# Altium integrated library WCH-CHxxx.IntLib: 327 symbols (part 3 of 5)
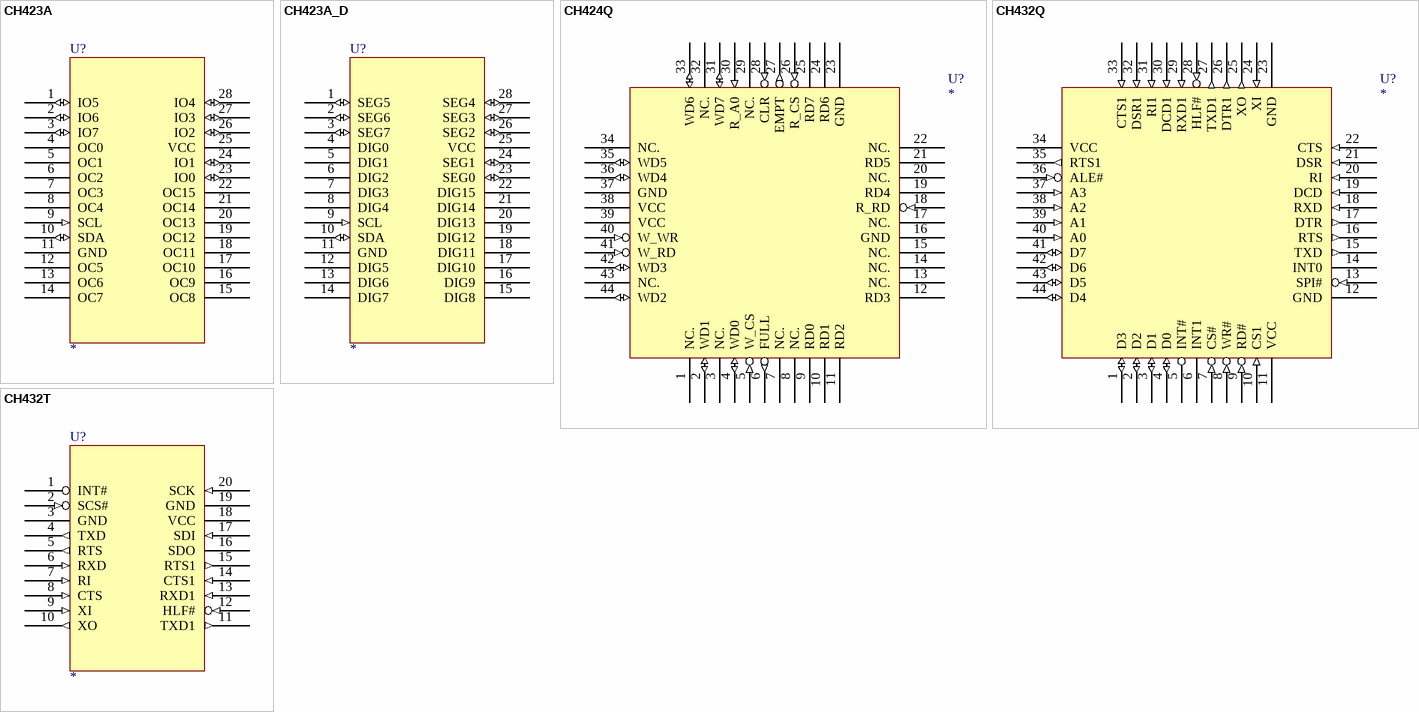
[diagram p39: symbols CH423A to CH432T]

## CH423A
designator U?
I2C/IIC I/O expander, 16 GPO + 8 GPIO
footprint SOP28
footprint DIP28S
pins: 1 IO5 (io), 2 IO6 (io), 3 IO7 (io), 4 OC0 (oc), 5 OC1 (oc), 6 OC2 (oc), 7 OC3 (oc), 8 OC4 (oc), 9 SCL (in), 10 SDA (io), 11 GND (power), 12 OC5 (oc), 13 OC6 (oc), 14 OC7 (oc), 15 OC8 (oc), 16 OC9 (oc), 17 OC10 (oc), 18 OC11 (oc), 19 OC12 (oc), 20 OC13 (oc), 21 OC14 (oc), 22 OC15 (oc), 23 IO0 (io), 24 IO1 (io), 25 VCC (power), 26 IO2 (io), 27 IO3 (io), 28 IO4 (io)

## CH423A_D
designator U?
I2C/IIC I/O expander, GPIO, 8-Seg * 16 / 128 LEDs Drive
footprint SOP28
footprint DIP28S
pins: 1 SEG5 (io), 2 SEG6 (io), 3 SEG7 (io), 4 DIG0 (oc), 5 DIG1 (oc), 6 DIG2 (oc), 7 DIG3 (oc), 8 DIG4 (oc), 9 SCL (in), 10 SDA (io), 11 GND (power), 12 DIG5 (oc), 13 DIG6 (oc), 14 DIG7 (oc), 15 DIG8 (oc), 16 DIG9 (oc), 17 DIG10 (oc), 18 DIG11 (oc), 19 DIG12 (oc), 20 DIG13 (oc), 21 DIG14 (oc), 22 DIG15 (oc), 23 SEG0 (io), 24 SEG1 (io), 25 VCC (power), 26 SEG2 (io), 27 SEG3 (io), 28 SEG4 (io)

## CH424Q
designator U?
FIFO, 4K byte * 8 bit
footprint LQFP44
pins: 1 NC., 2 WD1 (io), 3 NC., 4 WD0 (io), 5 W_CS (in), 6 FULL (out), 7 NC., 8 NC., 9 RD0 (hiz), 10 RD1 (hiz), 11 RD2 (hiz), 12 RD3 (hiz), 13 NC., 14 NC., 15 NC., 16 GND (power), 17 NC., 18 R_RD (in), 19 RD4 (hiz), 20 NC., 21 RD5 (hiz), 22 NC., 23 GND (power), 24 RD6 (hiz), 25 RD7 (hiz), 26 R_CS (in), 27 EMPT (out), 28 CLR (in), 29 NC., 30 R_A0 (in), 31 WD7 (io), 32 NC., 33 WD6 (io), 34 NC., 35 WD5 (io), 36 WD4 (io), 37 GND (power), 38 VCC (power), 39 VCC (power), 40 W_WR (in), 41 W_RD (in), 42 WD3 (io), 43 NC., 44 WD2 (io)

## CH432Q
designator U?
Dual 16C550 UART with IrDA, parallel / SPI
footprint LQFP44
pins: 1 D3 (io), 2 D2 (io), 3 D1 (io), 4 D0 (io), 5 INT# (oc), 6 INT1 (hiz), 7 CS# (in), 8 WR# (in), 9 RD# (in), 10 CS1 (in), 11 VCC (power), 12 GND (power), 13 SPI# (in), 14 INT0 (hiz), 15 TXD (out), 16 RTS (out), 17 DTR (out), 18 RXD (in), 19 DCD (in), 20 RI (in), 21 DSR (in), 22 CTS (in), 23 GND (power), 24 XI (in), 25 XO (out), 26 DTR1 (out), 27 TXD1 (out), 28 HLF# (in), 29 RXD1 (in), 30 DCD1 (in), 31 RI1 (in), 32 DSR1 (in), 33 CTS1 (in), 34 VCC (power), 35 RTS1 (out), 36 ALE# (in), 37 A3 (in), 38 A2 (in), 39 A1 (in), 40 A0 (in), 41 D7 (io), 42 D6 (io), 43 D5 (io), 44 D4 (io)

## CH432T
designator U?
SPI Dual 16C550 UART with IrDA
footprint SSOP20
pins: 1 INT# (oc), 2 SCS# (in), 3 GND (power), 4 TXD (out), 5 RTS (out), 6 RXD (in), 7 RI (in), 8 CTS (in), 9 XI (in), 10 XO (out), 11 TXD1 (out), 12 HLF# (in), 13 RXD1 (in), 14 CTS1 (in), 15 RTS1 (out), 16 SDO (hiz), 17 SDI (in), 18 VCC (power), 19 GND (power), 20 SCK (in)

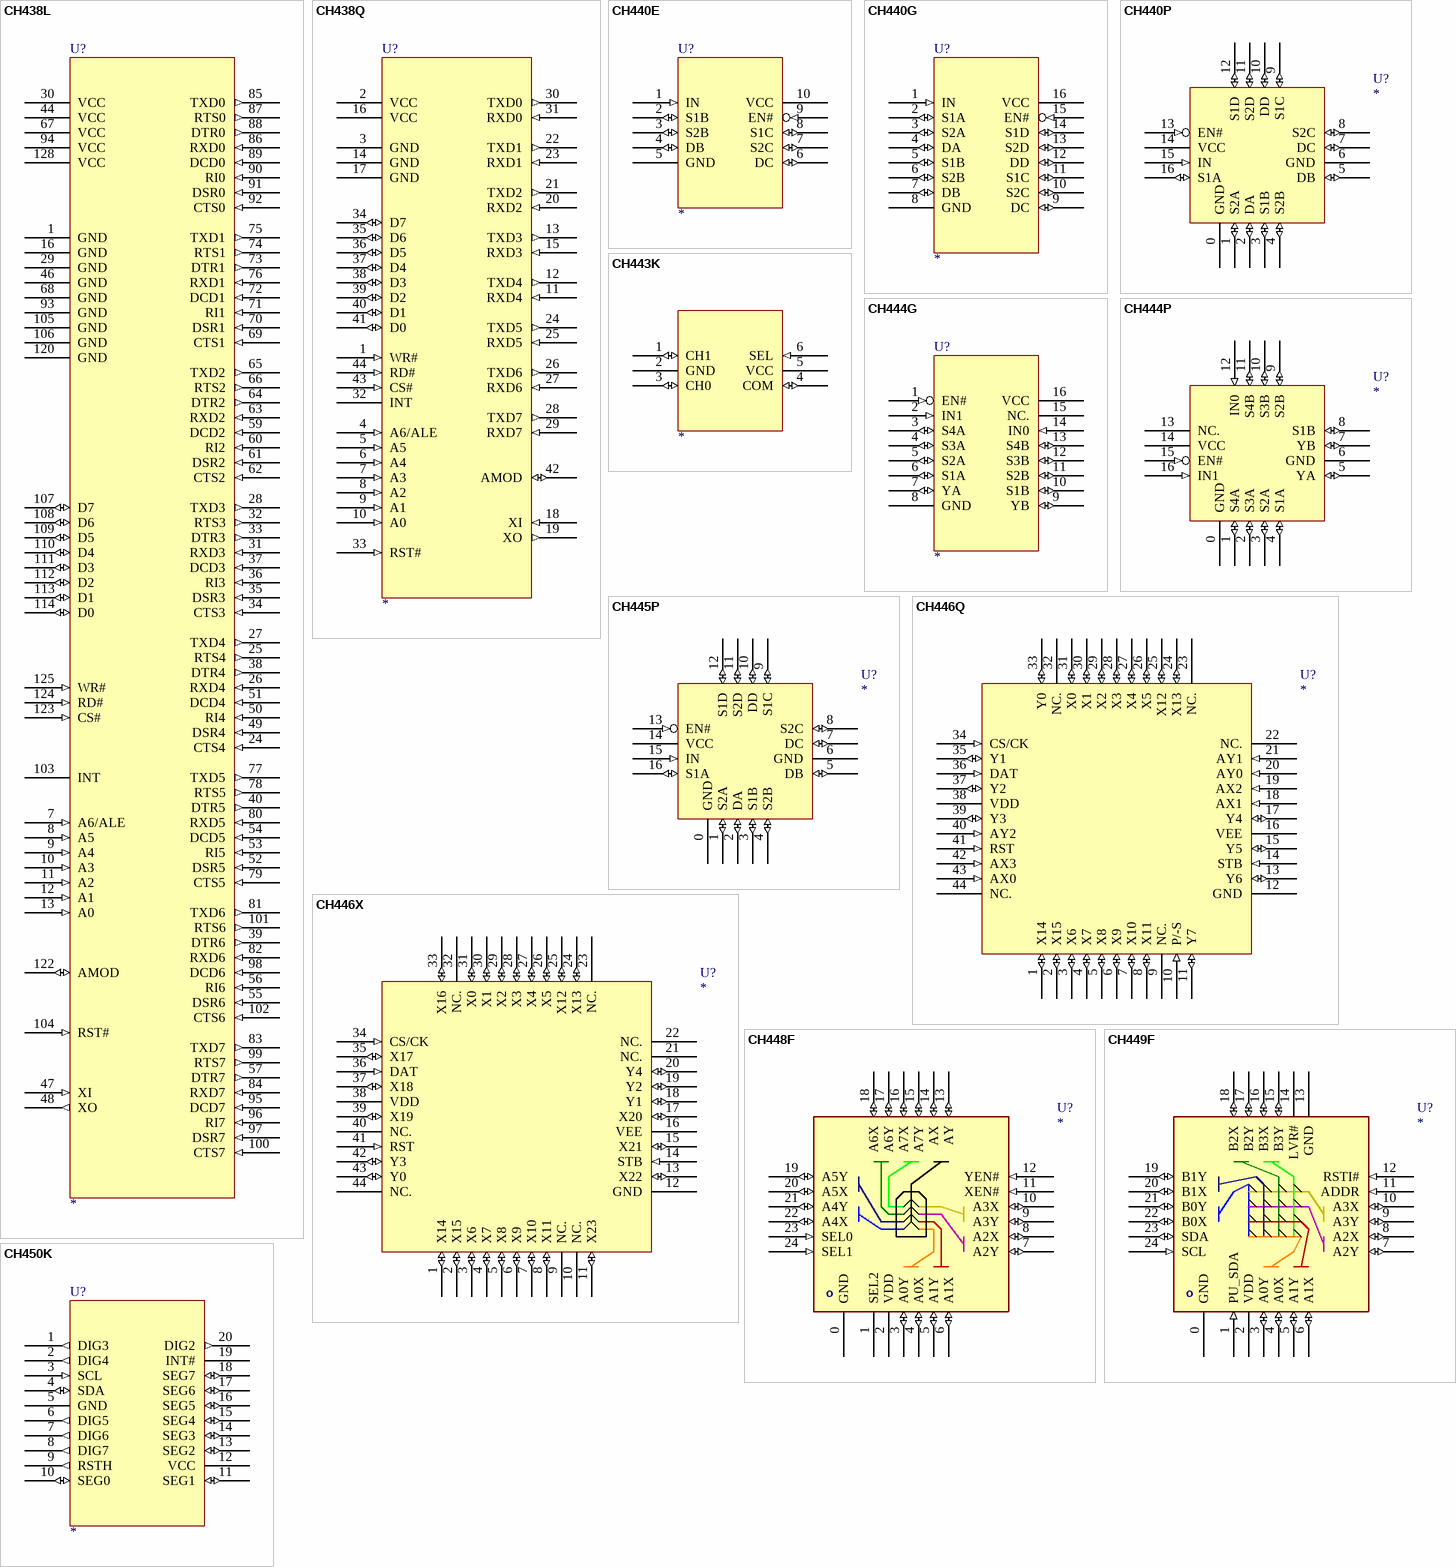
[diagram p17: symbols CH438L to CH450K]

## CH438L
designator U?
Parallel to 8S: Oct 16C550 UART with 128 byte FIFO, TTL Serial*8
footprint LQFP128
pins: 1 GND (power), 7 A6/ALE (in), 8 A5 (in), 9 A4 (in), 10 A3 (in), 11 A2 (in), 12 A1 (in), 13 A0 (in), 16 GND (power), 24 CTS4 (in), 25 RTS4 (out), 26 RXD4 (in), 27 TXD4 (out), 28 TXD3 (out), 29 GND (power), 30 VCC (power), 31 RXD3 (in), 32 RTS3 (out), 33 DTR3 (out), 34 CTS3 (in), 35 DSR3 (in), 36 RI3 (in), 37 DCD3 (in), 38 DTR4 (out), 39 DTR6 (out), 40 DTR5 (out), 44 VCC (power), 46 GND (power), 47 XI (in), 48 XO (out), 49 DSR4 (in), 50 RI4 (in), 51 DCD4 (in), 52 DSR5 (in), 53 RI5 (in), 54 DCD5 (in), 55 DSR6 (in), 56 RI6 (in), 57 DTR7 (out), 59 DCD2 (in), 60 RI2 (in), 61 DSR2 (in), 62 CTS2 (in), 63 RXD2 (in), 64 DTR2 (out), 65 TXD2 (out), 66 RTS2 (out), 67 VCC (power), 68 GND (power), 69 CTS1 (in), 70 DSR1 (in), 71 RI1 (in), 72 DCD1 (in), 73 DTR1 (out), 74 RTS1 (out), 75 TXD1 (out), 76 RXD1 (in), 77 TXD5 (out), 78 RTS5 (out), 79 CTS5 (in), 80 RXD5 (in), 81 TXD6 (out), 82 RXD6 (in), 83 TXD7 (out), 84 RXD7 (in), 85 TXD0 (out), 86 RXD0 (in), 87 RTS0 (out), 88 DTR0 (out), 89 DCD0 (in), 90 RI0 (in), 91 DSR0 (in), 92 CTS0 (in), 93 GND (power), 94 VCC (power), 95 DCD7 (in), 96 RI7 (in), 97 DSR7 (in), 98 DCD6 (in), 99 RTS7 (out), 100 CTS7 (in), 101 RTS6 (out), 102 CTS6 (in), 103 INT (oc), 104 RST# (in), 105 GND (power), 106 GND (power), 107 D7 (io), 108 D6 (io), 109 D5 (io), 110 D4 (io), 111 D3 (io), 112 D2 (io), 113 D1 (io), 114 D0 (io), 120 GND (power), 122 AMOD (io), 123 CS# (in), 124 RD# (in), 125 WR# (in), 128 VCC (power)

## CH438Q
designator U?
Parallel to 8S: Oct 16C550 UART with 128 byte FIFO, TTL Serial*8
footprint LQFP44
pins: 1 WR# (in), 2 VCC (power), 3 GND (power), 4 A6/ALE (in), 5 A5 (in), 6 A4 (in), 7 A3 (in), 8 A2 (in), 9 A1 (in), 10 A0 (in), 11 RXD4 (in), 12 TXD4 (out), 13 TXD3 (out), 14 GND (power), 15 RXD3 (in), 16 VCC (power), 17 GND (power), 18 XI (in), 19 XO (out), 20 RXD2 (in), 21 TXD2 (out), 22 TXD1 (out), 23 RXD1 (in), 24 TXD5 (out), 25 RXD5 (in), 26 TXD6 (out), 27 RXD6 (in), 28 TXD7 (out), 29 RXD7 (in), 30 TXD0 (out), 31 RXD0 (in), 32 INT (oc), 33 RST# (in), 34 D7 (io), 35 D6 (io), 36 D5 (io), 37 D4 (io), 38 D3 (io), 39 D2 (io), 40 D1 (io), 41 D0 (io), 42 AMOD (io), 43 CS# (in), 44 RD# (in)

## CH440E
designator U?
DPDT Low resistance mux 2:1 Analog switches with enable for 5V
footprint MSOP10
pins: 1 IN (in), 2 S1B (io), 3 S2B (io), 4 DB (io), 5 GND (power), 6 DC (io), 7 S2C (io), 8 S1C (io), 9 EN# (in), 10 VCC (power)

## CH440G
designator U?
QPDT Low resistance mux 2:1 Analog switches with enable for 5V
footprint SOP16
footprint TSSOP16
pins: 1 IN (in), 2 S1A (io), 3 S2A (io), 4 DA (io), 5 S1B (io), 6 S2B (io), 7 DB (io), 8 GND (power), 9 DC (io), 10 S2C (io), 11 S1C (io), 12 DD (io), 13 S2D (io), 14 S1D (io), 15 EN# (in), 16 VCC (power)

## CH440P
designator U?
QPDT Low resistance mux 2:1 Analog switches with enable for 5V
footprint QFN16_3X3
pins: 0 GND (power), 1 S2A (io), 2 DA (io), 3 S1B (io), 4 S2B (io), 5 DB (io), 6 GND (power), 7 DC (io), 8 S2C (io), 9 S1C (io), 10 DD (io), 11 S2D (io), 12 S1D (io), 13 EN# (in), 14 VCC (power), 15 IN (in), 16 S1A (io)

## CH443K
designator ?
SPDT Low resistance mux 2:1 Analog switches for 5V
footprint SOT-363
pins: 1 CH1 (io), 2 GND (power), 3 CH0 (io), 4 COM (io), 5 VCC (power), 6 SEL (in)

## CH444G
designator U?
DPQT Low resistance mux 4:1 Analog switches with enable for 5V
footprint SOP16
footprint TSSOP16
pins: 1 EN# (in), 2 IN1 (in), 3 S4A (io), 4 S3A (io), 5 S2A (io), 6 S1A (io), 7 YA (io), 8 GND (power), 9 YB (io), 10 S1B (io), 11 S2B (io), 12 S3B (io), 13 S4B (io), 14 IN0 (in), 15 NC., 16 VCC (power)

## CH444P
designator U?
DPQT Low resistance mux 4:1 Analog switches with enable for 5V
footprint QFN16_3X3
pins: 0 GND (power), 1 S4A (io), 2 S3A (io), 3 S2A (io), 4 S1A (io), 5 YA (io), 6 GND (power), 7 YB (io), 8 S1B (io), 9 S2B (io), 10 S3B (io), 11 S4B (io), 12 IN0 (in), 13 NC., 14 VCC (power), 15 EN# (in), 16 IN1 (in)

## CH445P
designator U?
QPDT Low resistance mux 2:1 Analog switches with enable for 3.3V
footprint QFN16_3X3
pins: 0 GND (power), 1 S2A (io), 2 DA (io), 3 S1B (io), 4 S2B (io), 5 DB (io), 6 GND (power), 7 DC (io), 8 S2C (io), 9 S1C (io), 10 DD (io), 11 S2D (io), 12 S1D (io), 13 EN# (in), 14 VCC (power), 15 IN (in), 16 S1A (io)

## CH446Q
designator U?
8 x 16 Analog switch array, include 128 switches for 12V
footprint LQFP44
pins: 1 X14 (io), 2 X15 (io), 3 X6 (io), 4 X7 (io), 5 X8 (io), 6 X9 (io), 7 X10 (io), 8 X11 (io), 9 NC., 10 P/-S (in), 11 Y7 (io), 12 GND (power), 13 Y6 (io), 14 STB (in), 15 Y5 (io), 16 VEE (power), 17 Y4 (io), 18 AX1 (in), 19 AX2 (in), 20 AY0 (in), 21 AY1 (in), 22 NC., 23 NC., 24 X13 (io), 25 X12 (io), 26 X5 (io), 27 X4 (io), 28 X3 (io), 29 X2 (io), 30 X1 (io), 31 X0 (io), 32 NC., 33 Y0 (io), 34 CS/CK (in), 35 Y1 (io), 36 DAT (in), 37 Y2 (io), 38 VDD (power), 39 Y3 (io), 40 AY2 (in), 41 RST (in), 42 AX3 (in), 43 AX0 (in), 44 NC.

## CH446X
designator U?
5 x 24 Analog switch array, include 120 switches for 12V
footprint LQFP44
pins: 1 X14 (io), 2 X15 (io), 3 X6 (io), 4 X7 (io), 5 X8 (io), 6 X9 (io), 7 X10 (io), 8 X11 (io), 9 NC., 10 NC., 11 X23 (io), 12 GND (power), 13 X22 (io), 14 STB (in), 15 X21 (io), 16 VEE (power), 17 X20 (io), 18 Y1 (io), 19 Y2 (io), 20 Y4 (io), 21 NC., 22 NC., 23 NC., 24 X13 (io), 25 X12 (io), 26 X5 (io), 27 X4 (io), 28 X3 (io), 29 X2 (io), 30 X1 (io), 31 X0 (io), 32 NC., 33 X16 (io), 34 CS/CK (in), 35 X17 (io), 36 DAT (in), 37 X18 (io), 38 VDD (power), 39 X19 (io), 40 NC., 41 RST (in), 42 Y3 (io), 43 Y0 (io), 44 NC.

## CH448F
designator U?
USB2.0 mux 8:1 / 16:1 Differential Switch, DPOT with dual enable
footprint QFN24_4X4
pins: 0 GND (power), 1 SEL2 (power), 2 VDD (power), 3 A0Y (io), 4 A0X (io), 5 A1Y (io), 6 A1X (io), 7 A2Y (io), 8 A2X (io), 9 A3Y (io), 10 A3X (io), 11 XEN# (in), 12 YEN# (in), 13 AY (io), 14 AX (io), 15 A7Y (io), 16 A7X (io), 17 A6Y (io), 18 A6X (io), 19 A5Y (io), 20 A5X (io), 21 A4Y (io), 22 A4X (io), 23 SEL0 (in), 24 SEL1 (in)
2 alternate drawings of the same symbol
text: o

## CH449F
designator U?
USB2.0 4x4 Analog Differential Switch Matrix, QXQX
footprint QFN24_4X4
pins: 0 GND (power), 1 PU_SDA (in), 2 VDD (power), 3 A0Y (io), 4 A0X (io), 5 A1Y (io), 6 A1X (io), 7 A2Y (io), 8 A2X (io), 9 A3Y (io), 10 A3X (io), 11 ADDR (in), 12 RSTI# (in), 13 GND (power), 14 LVR# (oc), 15 B3Y (io), 16 B3X (io), 17 B2Y (io), 18 B2X (io), 19 B1Y (io), 20 B1X (io), 21 B0Y (io), 22 B0X (io), 23 SDA (io), 24 SCL (in)
2 alternate drawings of the same symbol
text: o

## CH450K
designator U?
8-Seg * 6 Digits / 48 LEDs Drive & 8x6 Keyboard, I2C/IIC
footprint DIP20
footprint SOP20
pins: 1 DIG3 (out), 2 DIG4 (out), 3 SCL (in), 4 SDA (io), 5 GND (power), 6 DIG5 (out), 7 DIG6 (out), 8 DIG7 (out), 9 RSTH (out), 10 SEG0 (io), 11 SEG1 (io), 12 VCC (power), 13 SEG2 (io), 14 SEG3 (io), 15 SEG4 (io), 16 SEG5 (io), 17 SEG6 (io), 18 SEG7 (io), 19 INT# (oc), 20 DIG2 (out)

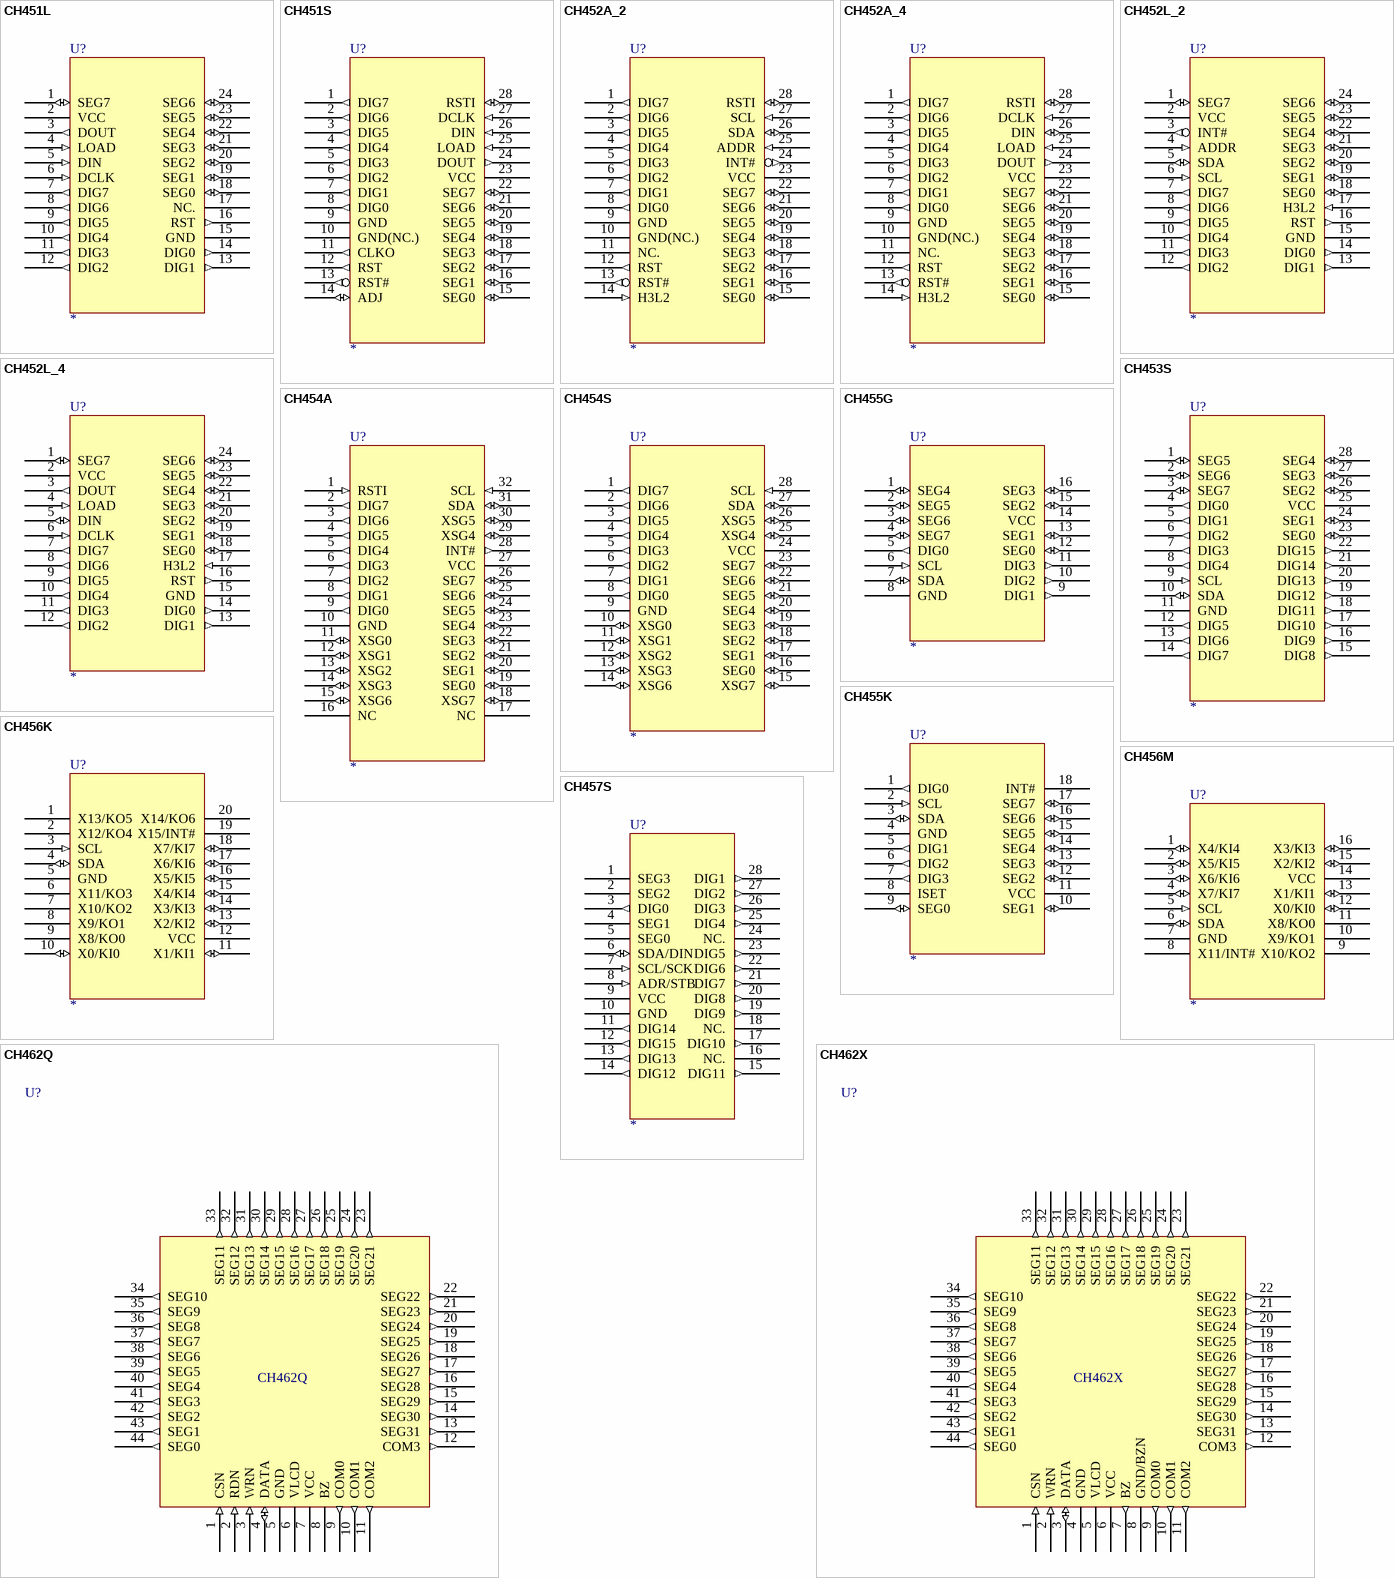
[diagram p18: symbols CH451L to CH462X]

## CH451L
designator U?
8-Seg * 8 Digits / 64 LEDs Drive & 8x8 Keyboard, 4 Wire Interface, SPI
footprint DIP24S
pins: 1 SEG7 (io), 2 VCC (power), 3 DOUT (out), 4 LOAD (in), 5 DIN (in), 6 DCLK (in), 7 DIG7 (out), 8 DIG6 (out), 9 DIG5 (out), 10 DIG4 (out), 11 DIG3 (out), 12 DIG2 (out), 13 DIG1 (out), 14 DIG0 (out), 15 GND (power), 16 RST (out), 17 NC., 18 SEG0 (io), 19 SEG1 (io), 20 SEG2 (io), 21 SEG3 (io), 22 SEG4 (io), 23 SEG5 (io), 24 SEG6 (io)

## CH451S
designator U?
8-Seg * 8 Digits / 64 LEDs Drive & 8x8 Keyboard, 4 Wire Interface, SPI
footprint SOP28
footprint DIP28
pins: 1 DIG7 (out), 2 DIG6 (out), 3 DIG5 (out), 4 DIG4 (out), 5 DIG3 (out), 6 DIG2 (out), 7 DIG1 (out), 8 DIG0 (out), 9 GND (power), 10 GND(NC.) (power), 11 CLKO (out), 12 RST (out), 13 RST# (out), 14 ADJ (io), 15 SEG0 (io), 16 SEG1 (io), 17 SEG2 (io), 18 SEG3 (io), 19 SEG4 (io), 20 SEG5 (io), 21 SEG6 (io), 22 SEG7 (io), 23 VCC (power), 24 DOUT (out), 25 LOAD (in), 26 DIN (in), 27 DCLK (in), 28 RSTI (io)

## CH452A_2
designator U?
8-Seg * 8 Digits / 64 LEDs Drive & 8x8 Keyboard, 2 Wire Interface, I2C/IIC
footprint SOP28
footprint DIP28
pins: 1 DIG7 (out), 2 DIG6 (out), 3 DIG5 (out), 4 DIG4 (out), 5 DIG3 (out), 6 DIG2 (out), 7 DIG1 (out), 8 DIG0 (out), 9 GND (power), 10 GND(NC.) (power), 11 NC., 12 RST (out), 13 RST# (out), 14 H3L2 (in), 15 SEG0 (io), 16 SEG1 (io), 17 SEG2 (io), 18 SEG3 (io), 19 SEG4 (io), 20 SEG5 (io), 21 SEG6 (io), 22 SEG7 (io), 23 VCC (power), 24 INT# (out), 25 ADDR (in), 26 SDA (io), 27 SCL (in), 28 RSTI (io)

## CH452A_4
designator U?
8-Seg * 8 Digits / 64 LEDs Drive & 8x8 Keyboard, 4 Wire Interface, SPI
footprint SOP28
footprint DIP28
pins: 1 DIG7 (out), 2 DIG6 (out), 3 DIG5 (out), 4 DIG4 (out), 5 DIG3 (out), 6 DIG2 (out), 7 DIG1 (out), 8 DIG0 (out), 9 GND (power), 10 GND(NC.) (power), 11 NC., 12 RST (out), 13 RST# (out), 14 H3L2 (in), 15 SEG0 (io), 16 SEG1 (io), 17 SEG2 (io), 18 SEG3 (io), 19 SEG4 (io), 20 SEG5 (io), 21 SEG6 (io), 22 SEG7 (io), 23 VCC (power), 24 DOUT (out), 25 LOAD (in), 26 DIN (io), 27 DCLK (in), 28 RSTI (io)

## CH452L_2
designator U?
8-Seg * 8 Digits / 64 LEDs Drive & 8x8 Keyboard, 2 Wire Interface, I2C/IIC
footprint DIP24S
pins: 1 SEG7 (io), 2 VCC (power), 3 INT# (out), 4 ADDR (in), 5 SDA (io), 6 SCL (in), 7 DIG7 (out), 8 DIG6 (out), 9 DIG5 (out), 10 DIG4 (out), 11 DIG3 (out), 12 DIG2 (out), 13 DIG1 (out), 14 DIG0 (out), 15 GND (power), 16 RST (out), 17 H3L2 (in), 18 SEG0 (io), 19 SEG1 (io), 20 SEG2 (io), 21 SEG3 (io), 22 SEG4 (io), 23 SEG5 (io), 24 SEG6 (io)

## CH452L_4
designator U?
8-Seg * 8 Digits / 64 LEDs Drive & 8x8 Keyboard, 4 Wire Interface, SPI
footprint DIP24S
pins: 1 SEG7 (io), 2 VCC (power), 3 DOUT (out), 4 LOAD (in), 5 DIN (io), 6 DCLK (in), 7 DIG7 (out), 8 DIG6 (out), 9 DIG5 (out), 10 DIG4 (out), 11 DIG3 (out), 12 DIG2 (out), 13 DIG1 (out), 14 DIG0 (out), 15 GND (power), 16 RST (out), 17 H3L2 (in), 18 SEG0 (io), 19 SEG1 (io), 20 SEG2 (io), 21 SEG3 (io), 22 SEG4 (io), 23 SEG5 (io), 24 SEG6 (io)

## CH453S
designator U?
8-Seg * 16 Digits / 128 LEDs Drive, I2C/IIC
footprint SOP28
footprint DIP28S
pins: 1 SEG5 (io), 2 SEG6 (io), 3 SEG7 (io), 4 DIG0 (out), 5 DIG1 (out), 6 DIG2 (out), 7 DIG3 (out), 8 DIG4 (out), 9 SCL (in), 10 SDA (io), 11 GND (power), 12 DIG5 (out), 13 DIG6 (out), 14 DIG7 (out), 15 DIG8 (out), 16 DIG9 (out), 17 DIG10 (out), 18 DIG11 (out), 19 DIG12 (out), 20 DIG13 (out), 21 DIG14 (out), 22 DIG15 (out), 23 SEG0 (io), 24 SEG1 (io), 25 VCC (power), 26 SEG2 (io), 27 SEG3 (io), 28 SEG4 (io)

## CH454A
designator U?
16 Segments * 8 Digits / 128 LEDs Drive & 8x8 Keyboard, I2C/IIC
footprint SDIP32
pins: 1 RSTI (in), 2 DIG7 (out), 3 DIG6 (out), 4 DIG5 (out), 5 DIG4 (out), 6 DIG3 (out), 7 DIG2 (out), 8 DIG1 (out), 9 DIG0 (out), 10 GND (power), 11 XSG0 (io), 12 XSG1 (io), 13 XSG2 (io), 14 XSG3 (io), 15 XSG6 (io), 16 NC, 17 NC, 18 XSG7 (io), 19 SEG0 (io), 20 SEG1 (io), 21 SEG2 (io), 22 SEG3 (io), 23 SEG4 (io), 24 SEG5 (io), 25 SEG6 (io), 26 SEG7 (io), 27 VCC (power), 28 INT# (out), 29 XSG4 (io), 30 XSG5 (io), 31 SDA (io), 32 SCL (in)

## CH454S
designator U?
16 Segments * 8 Digits / 128 LEDs Drive & 8x8 Keyboard, I2C/IIC
footprint SOP28
pins: 1 DIG7 (out), 2 DIG6 (out), 3 DIG5 (out), 4 DIG4 (out), 5 DIG3 (out), 6 DIG2 (out), 7 DIG1 (out), 8 DIG0 (out), 9 GND (power), 10 XSG0 (io), 11 XSG1 (io), 12 XSG2 (io), 13 XSG3 (io), 14 XSG6 (io), 15 XSG7 (io), 16 SEG0 (io), 17 SEG1 (io), 18 SEG2 (io), 19 SEG3 (io), 20 SEG4 (io), 21 SEG5 (io), 22 SEG6 (io), 23 SEG7 (io), 24 VCC (power), 25 XSG4 (io), 26 XSG5 (io), 27 SDA (io), 28 SCL (in)

## CH455G
designator U?
8-Seg * 4 Digits / 32 LEDs Drive & 7x4 Keyboard, I2C/IIC
footprint SOP16
pins: 1 SEG4 (io), 2 SEG5 (io), 3 SEG6 (io), 4 SEG7 (io), 5 DIG0 (out), 6 SCL (in), 7 SDA (io), 8 GND (power), 9 DIG1 (out), 10 DIG2 (out), 11 DIG3 (out), 12 SEG0 (io), 13 SEG1 (io), 14 VCC (power), 15 SEG2 (io), 16 SEG3 (io)

## CH455K
designator U?
8-Seg * 4 Digits / 32 LEDs Drive & 7x4 Keyboard, I2C/IIC
footprint SOP18
footprint DIP18
pins: 1 DIG0 (out), 2 SCL (in), 3 SDA (io), 4 GND (power), 5 DIG1 (out), 6 DIG2 (out), 7 DIG3 (out), 8 ISET, 9 SEG0 (io), 10 SEG1 (io), 11 VCC (power), 12 SEG2 (io), 13 SEG3 (io), 14 SEG4 (io), 15 SEG5 (io), 16 SEG6 (io), 17 SEG7 (io), 18 INT# (oc)

## CH456K
designator U?
8-Seg * 16 Digits / 128 LEDs Drive & 8x8 Keyboard, I2C/IIC
footprint DIP20
footprint SOP20
pins: 1 X13/KO5 (hiz), 2 X12/KO4 (hiz), 3 SCL (in), 4 SDA (io), 5 GND (power), 6 X11/KO3 (hiz), 7 X10/KO2 (hiz), 8 X9/KO1 (hiz), 9 X8/KO0 (hiz), 10 X0/KI0 (io), 11 X1/KI1 (io), 12 VCC (power), 13 X2/KI2 (io), 14 X3/KI3 (io), 15 X4/KI4 (io), 16 X5/KI5 (io), 17 X6/KI6 (io), 18 X7/KI7 (io), 19 X15/INT# (hiz), 20 X14/KO6 (hiz)

## CH456M
designator U?
8-Seg * 12 Digits / 96 LEDs Drive & 4x8 Keyboard, I2C/IIC
footprint DIP16
footprint SOP16
pins: 1 X4/KI4 (io), 2 X5/KI5 (io), 3 X6/KI6 (io), 4 X7/KI7 (io), 5 SCL (in), 6 SDA (io), 7 GND (power), 8 X11/INT# (hiz), 9 X10/KO2 (hiz), 10 X9/KO1 (hiz), 11 X8/KO0 (hiz), 12 X0/KI0 (io), 13 X1/KI1 (io), 14 VCC (power), 15 X2/KI2 (io), 16 X3/KI3 (io)

## CH457S
designator U?
8-Seg * 16 Digits / 128 LEDs Drive, I2C/IIC/2-wire/3-wire
footprint SOP28
footprint TSSOP28
pins: 1 SEG3 (hiz), 2 SEG2 (hiz), 3 DIG0 (out), 4 SEG1 (hiz), 5 SEG0 (hiz), 6 SDA/DIN (io), 7 SCL/SCK (in), 8 ADR/STB (in), 9 VCC (power), 10 GND (power), 11 DIG14 (out), 12 DIG15 (out), 13 DIG13 (out), 14 DIG12 (out), 15 DIG11 (out), 16 NC., 17 DIG10 (out), 18 NC., 19 DIG9 (out), 20 DIG8 (out), 21 DIG7 (out), 22 DIG6 (out), 23 DIG5 (out), 24 NC., 25 DIG4 (out), 26 DIG3 (out), 27 DIG2 (out), 28 DIG1 (out)

## CH462Q
designator U?
32*4 LCD controller, 4-wire
footprint LQFP44
pins: 1 CSN (in), 2 RDN (in), 3 WRN (in), 4 DATA (io), 5 GND (power), 6 VLCD (power), 7 VCC (power), 8 BZ, 9 COM0 (out), 10 COM1 (out), 11 COM2 (out), 12 COM3 (out), 13 SEG31 (out), 14 SEG30 (out), 15 SEG29 (out), 16 SEG28 (out), 17 SEG27 (out), 18 SEG26 (out), 19 SEG25 (out), 20 SEG24 (out), 21 SEG23 (out), 22 SEG22 (out), 23 SEG21 (out), 24 SEG20 (out), 25 SEG19 (out), 26 SEG18 (out), 27 SEG17 (out), 28 SEG16 (out), 29 SEG15 (out), 30 SEG14 (out), 31 SEG13 (out), 32 SEG12 (out), 33 SEG11 (out), 34 SEG10 (out), 35 SEG9 (out), 36 SEG8 (out), 37 SEG7 (out), 38 SEG6 (out), 39 SEG5 (out), 40 SEG4 (out), 41 SEG3 (out), 42 SEG2 (out), 43 SEG1 (out), 44 SEG0 (out)

## CH462X
designator U?
32*4 LCD controller, 3-wire
footprint LQFP44
pins: 1 CSN (in), 2 WRN (in), 3 DATA (io), 4 GND (power), 5 VLCD (power), 6 VCC (power), 7 BZ (out), 8 GND/BZN (power), 9 COM0 (out), 10 COM1 (out), 11 COM2 (out), 12 COM3 (out), 13 SEG31 (out), 14 SEG30 (out), 15 SEG29 (out), 16 SEG28 (out), 17 SEG27 (out), 18 SEG26 (out), 19 SEG25 (out), 20 SEG24 (out), 21 SEG23 (out), 22 SEG22 (out), 23 SEG21 (out), 24 SEG20 (out), 25 SEG19 (out), 26 SEG18 (out), 27 SEG17 (out), 28 SEG16 (out), 29 SEG15 (out), 30 SEG14 (out), 31 SEG13 (out), 32 SEG12 (out), 33 SEG11 (out), 34 SEG10 (out), 35 SEG9 (out), 36 SEG8 (out), 37 SEG7 (out), 38 SEG6 (out), 39 SEG5 (out), 40 SEG4 (out), 41 SEG3 (out), 42 SEG2 (out), 43 SEG1 (out), 44 SEG0 (out)

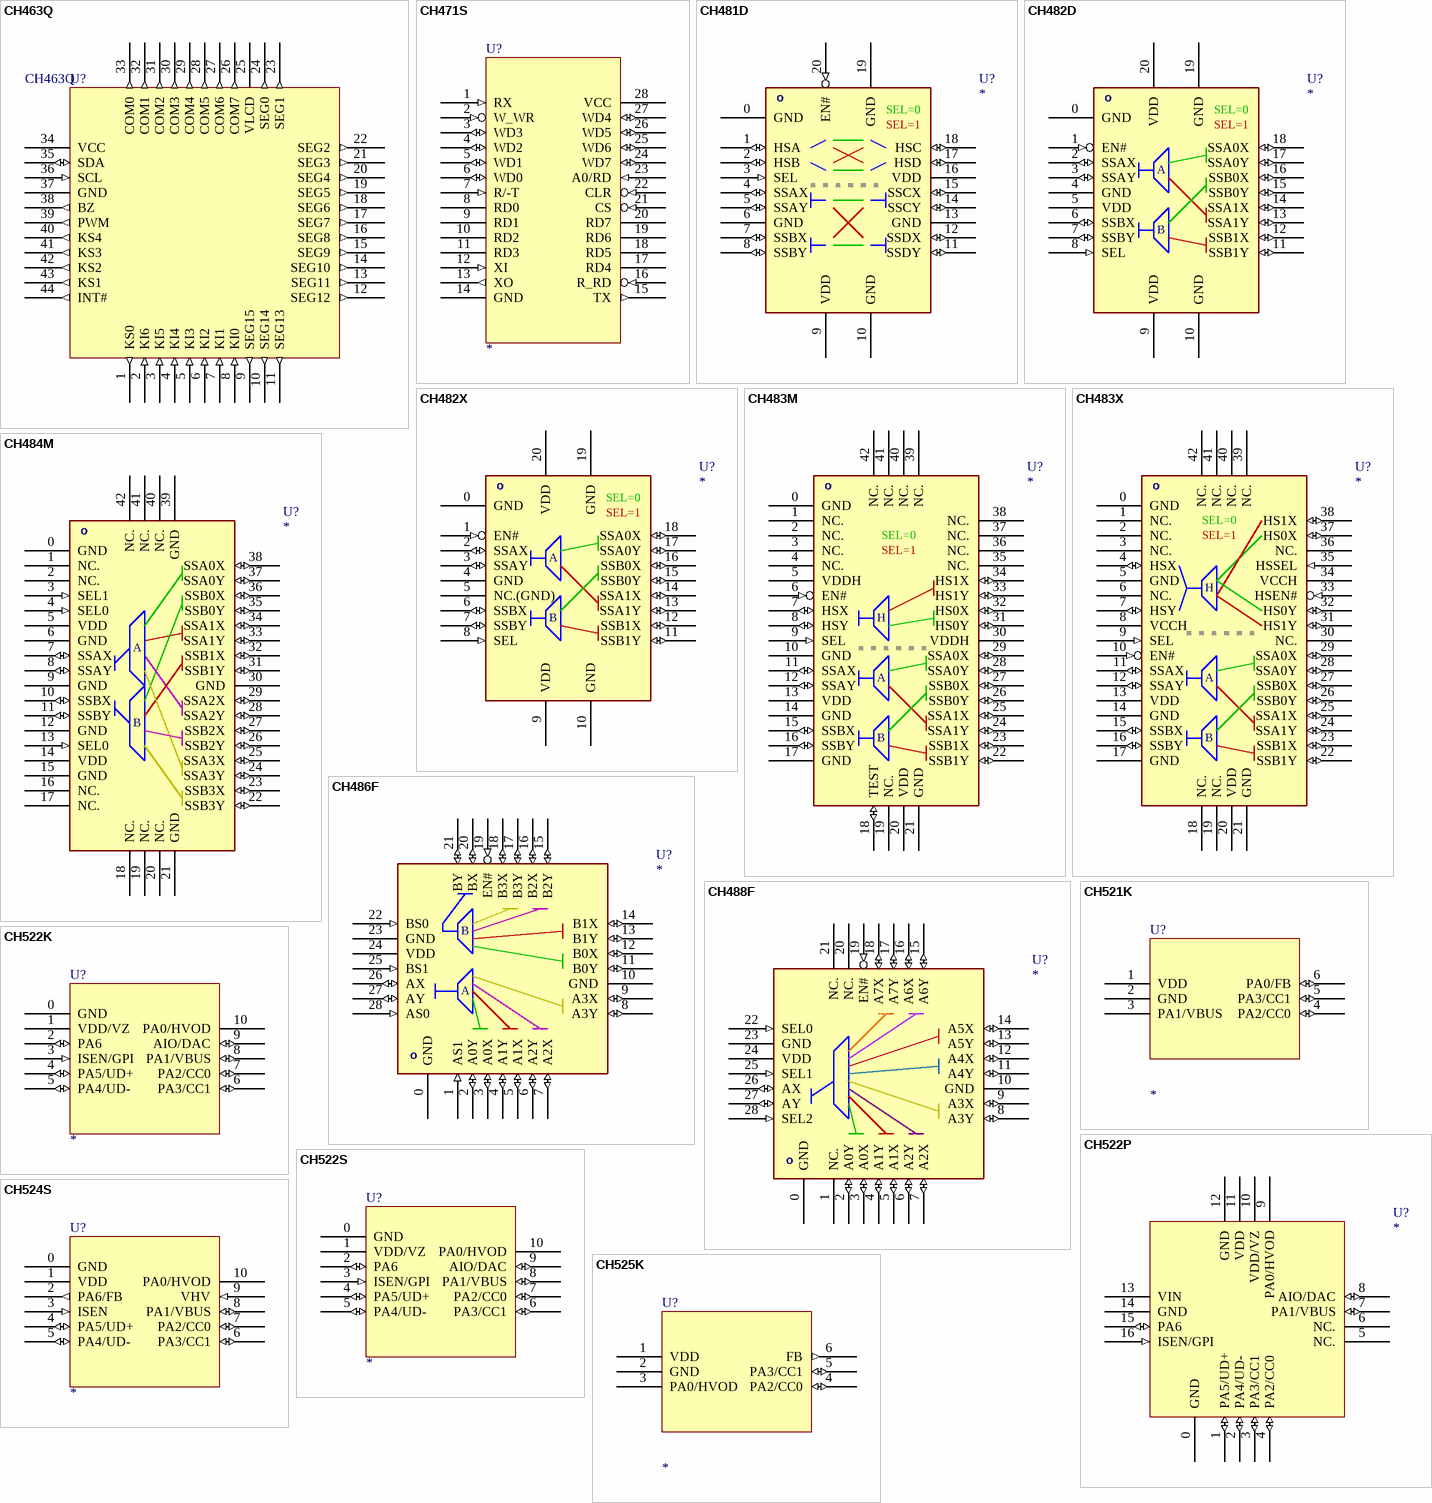
[diagram p19: symbols CH463Q to CH525K]

## CH463Q
designator U?
16*8 LCD controller & 7*5 keyboard, 2-wire
footprint LQFP44
pins: 1 KS0 (out), 2 KI6 (in), 3 KI5 (in), 4 KI4 (in), 5 KI3 (in), 6 KI2 (in), 7 KI1 (in), 8 KI0 (in), 9 SEG15 (out), 10 SEG14 (out), 11 SEG13 (out), 12 SEG12 (out), 13 SEG11 (out), 14 SEG10 (out), 15 SEG9 (out), 16 SEG8 (out), 17 SEG7 (out), 18 SEG6 (out), 19 SEG5 (out), 20 SEG4 (out), 21 SEG3 (out), 22 SEG2 (out), 23 SEG1 (out), 24 SEG0 (out), 25 VLCD (power), 26 COM7 (out), 27 COM6 (out), 28 COM5 (out), 29 COM4 (out), 30 COM3 (out), 31 COM2 (out), 32 COM1 (out), 33 COM0 (out), 34 VCC (power), 35 SDA (io), 36 SCL (in), 37 GND (power), 38 BZ (out), 39 PWM (out), 40 KS4 (out), 41 KS3 (out), 42 KS2 (out), 43 KS1 (out), 44 INT# (out)

## CH471S
designator U?
footprint SOP28
pins: 1 RX (in), 2 W_WR (in), 3 WD3 (io), 4 WD2 (io), 5 WD1 (io), 6 WD0 (io), 7 R/-T (in), 8 RD0 (hiz), 9 RD1 (hiz), 10 RD2 (hiz), 11 RD3 (hiz), 12 XI (in), 13 XO (out), 14 GND (power), 15 TX (out), 16 R_RD (in), 17 RD4 (hiz), 18 RD5 (hiz), 19 RD6 (hiz), 20 RD7 (hiz), 21 CS (in), 22 CLR (in), 23 A0/RD (in), 24 WD7 (io), 25 WD6 (io), 26 WD5 (io), 27 WD4 (io), 28 VCC (power)

## CH481D
designator U?
DP/PCIe/SATA/USB3.0 Differential Switch, QPDT
footprint QFN20_2.5X4.5
pins: 0 GND (power), 1 HSA (io), 2 HSB (io), 3 SEL (in), 4 SSAX (io), 5 SSAY (io), 6 GND (power), 7 SSBX (io), 8 SSBY (io), 9 VDD (power), 10 GND (power), 11 SSDY (io), 12 SSDX (io), 13 GND (power), 14 SSCY (io), 15 SSCX (io), 16 VDD (power), 17 HSD (io), 18 HSC (io), 19 GND (power), 20 EN# (in)
2 alternate drawings of the same symbol
text: o; SEL=0; SEL=1

## CH482D
designator U?
DP/PCIe/SATA/USB3.0 Differential Switch, QPDT
footprint QFN20_2.5X4.5
pins: 0 GND (power), 1 EN# (in), 2 SSAX (io), 3 SSAY (io), 4 GND (power), 5 VDD (power), 6 SSBX (io), 7 SSBY (io), 8 SEL (in), 9 VDD (power), 10 GND (power), 11 SSB1Y (io), 12 SSB1X (io), 13 SSA1Y (io), 14 SSA1X (io), 15 SSB0Y (io), 16 SSB0X (io), 17 SSA0Y (io), 18 SSA0X (io), 19 GND (power), 20 VDD (power)
2 alternate drawings of the same symbol
text: o; SEL=0; SEL=1; A; B

## CH482X
designator U?
DP/PCIe/SATA/USB3.0/USB3.2 Differential Switch, QPDT
footprint QFN20_2.5X4.5
pins: 0 GND (power), 1 EN# (in), 2 SSAX (io), 3 SSAY (io), 4 GND (power), 5 NC.(GND), 6 SSBX (io), 7 SSBY (io), 8 SEL (in), 9 VDD (power), 10 GND (power), 11 SSB1Y (io), 12 SSB1X (io), 13 SSA1Y (io), 14 SSA1X (io), 15 SSB0Y (io), 16 SSB0X (io), 17 SSA0Y (io), 18 SSA0X (io), 19 GND (power), 20 VDD (power)
2 alternate drawings of the same symbol
text: o; SEL=0; SEL=1; A; B

## CH483M
designator U?
DP/PCIe/SATA/USB3.0 & USB2.0 Differential Switch, QPDT+DPDT
footprint QFN42_3.5X9
pins: 0 GND (power), 1 NC., 2 NC., 3 NC., 4 NC., 5 VDDH (power), 6 EN# (in), 7 HSX (io), 8 HSY (io), 9 SEL (in), 10 GND (power), 11 SSAX (io), 12 SSAY (io), 13 VDD (power), 14 GND (power), 15 SSBX (io), 16 SSBY (io), 17 GND (power), 18 TEST (io), 19 NC., 20 VDD (power), 21 GND (power), 22 SSB1Y (io), 23 SSB1X (io), 24 SSA1Y (io), 25 SSA1X (io), 26 SSB0Y (io), 27 SSB0X (io), 28 SSA0Y (io), 29 SSA0X (io), 30 VDDH (power), 31 HS0Y (io), 32 HS0X (io), 33 HS1Y (io), 34 HS1X (io), 35 NC., 36 NC., 37 NC., 38 NC., 39 NC., 40 NC., 41 NC., 42 NC.
2 alternate drawings of the same symbol
text: o; SEL=0; SEL=1; H; A; B

## CH483X
designator U?
DP/PCIe/SATA/USB3.0 & USB2.0 Differential Switch, QPDT+DPDT
footprint QFN42_3.5X9
pins: 0 GND (power), 1 NC., 2 NC., 3 NC., 4 HSX (io), 5 GND (power), 6 NC., 7 HSY (io), 8 VCCH (power), 9 SEL (in), 10 EN# (in), 11 SSAX (io), 12 SSAY (io), 13 VDD (power), 14 GND (power), 15 SSBX (io), 16 SSBY (io), 17 GND (power), 18 NC., 19 NC., 20 VDD (power), 21 GND (power), 22 SSB1Y (io), 23 SSB1X (io), 24 SSA1Y (io), 25 SSA1X (io), 26 SSB0Y (io), 27 SSB0X (io), 28 SSA0Y (io), 29 SSA0X (io), 30 NC., 31 HS1Y (io), 32 HS0Y (io), 33 HSEN# (in), 34 VCCH (power), 35 HSSEL (in), 36 NC., 37 HS0X (io), 38 HS1X (io), 39 NC., 40 NC., 41 NC., 42 NC.
2 alternate drawings of the same symbol
text: o; SEL=0; SEL=1; H; A; B

## CH484M
designator U?
DP/PCIe/SATA/USB3.0 Differential Switch, QPQT
footprint QFN42_3.5X9
pins: 0 GND (power), 1 NC., 2 NC., 3 SEL1 (in), 4 SEL0 (in), 5 VDD (power), 6 GND (power), 7 SSAX (io), 8 SSAY (io), 9 GND (power), 10 SSBX (io), 11 SSBY (io), 12 GND (power), 13 SEL0 (in), 14 VDD (power), 15 GND (power), 16 NC., 17 NC., 18 NC., 19 NC., 20 NC., 21 GND (power), 22 SSB3Y (io), 23 SSB3X (io), 24 SSA3Y (io), 25 SSA3X (io), 26 SSB2Y (io), 27 SSB2X (io), 28 SSA2Y (io), 29 SSA2X (io), 30 GND (power), 31 SSB1Y (io), 32 SSB1X (io), 33 SSA1Y (io), 34 SSA1X (io), 35 SSB0Y (io), 36 SSB0X (io), 37 SSA0Y (io), 38 SSA0X (io), 39 GND (power), 40 NC., 41 NC., 42 NC.
2 alternate drawings of the same symbol
text: o; A; B

## CH486F
designator U?
USB2.0/1.5Gbps dual mux 4:1 Differential Switch, QPQT
footprint QFN28_4X4
pins: 0 GND (power), 1 AS1 (in), 2 A0Y (io), 3 A0X (io), 4 A1Y (io), 5 A1X (io), 6 A2Y (io), 7 A2X (io), 8 A3Y (io), 9 A3X (io), 10 GND (power), 11 B0Y (io), 12 B0X (io), 13 B1Y (io), 14 B1X (io), 15 B2Y (io), 16 B2X (io), 17 B3Y (io), 18 B3X (io), 19 EN# (in), 20 BX (io), 21 BY (io), 22 BS0 (in), 23 GND (power), 24 VDD (power), 25 BS1 (in), 26 AX (io), 27 AY (io), 28 AS0 (in)
2 alternate drawings of the same symbol
text: B; A; o

## CH488F
designator U?
USB2.0/1Gbps Differential Switch, DPOT
footprint QFN28_4X4
pins: 0 GND (power), 1 NC., 2 A0Y (io), 3 A0X (io), 4 A1Y (io), 5 A1X (io), 6 A2Y (io), 7 A2X (io), 8 A3Y (io), 9 A3X (io), 10 GND (power), 11 A4Y (io), 12 A4X (io), 13 A5Y (io), 14 A5X (io), 15 A6Y (io), 16 A6X (io), 17 A7Y (io), 18 A7X (io), 19 EN# (in), 20 NC., 21 NC., 22 SEL0 (in), 23 GND (power), 24 VDD (power), 25 SEL1 (in), 26 AX (io), 27 AY (io), 28 SEL2 (in)
2 alternate drawings of the same symbol
text: o

## CH521K
designator U?
8 bit RISC MCU with USB PD & type-C power manager
footprint SOT-23-6
pins: 1 VDD (power), 2 GND (power), 3 PA1/VBUS (oc), 4 PA2/CC0 (io), 5 PA3/CC1 (io), 6 PA0/FB (io)

## CH522K
designator U?
8 bit RISC MCU with USB PD & type-C power consumer
footprint ESSOP10
pins: 0 GND (power), 1 VDD/VZ (power), 2 PA6 (io), 3 ISEN/GPI (in), 4 PA5/UD+ (io), 5 PA4/UD- (io), 6 PA3/CC1 (io), 7 PA2/CC0 (io), 8 PA1/VBUS (io), 9 AIO/DAC (io), 10 PA0/HVOD (oc)

## CH522P
designator U?
8 bit RISC MCU with USB PD & type-C power manager
footprint QFN16_3x3
pins: 0 GND (power), 1 PA5/UD+ (io), 2 PA4/UD- (io), 3 PA3/CC1 (io), 4 PA2/CC0 (io), 5 NC., 6 NC., 7 PA1/VBUS (io), 8 AIO/DAC (io), 9 PA0/HVOD (oc), 10 VDD/VZ (power), 11 VDD (power), 12 GND (power), 13 VIN (power), 14 GND (power), 15 PA6 (io), 16 ISEN/GPI (in)
2 alternate drawings of the same symbol

## CH522S
designator U?
8 bit RISC MCU with USB PD & type-C power module
footprint ESSOP10
pins: 0 GND (power), 1 VDD/VZ (power), 2 PA6 (io), 3 ISEN/GPI (in), 4 PA5/UD+ (io), 5 PA4/UD- (io), 6 PA3/CC1 (io), 7 PA2/CC0 (io), 8 PA1/VBUS (io), 9 AIO/DAC (io), 10 PA0/HVOD (oc)

## CH524S
designator U?
8 bit RISC MCU with USB PD & type-C power manager
footprint ESSOP10
pins: 0 GND (power), 1 VDD (power), 2 PA6/FB (out), 3 ISEN (in), 4 PA5/UD+ (io), 5 PA4/UD- (io), 6 PA3/CC1 (io), 7 PA2/CC0 (io), 8 PA1/VBUS (io), 9 VHV (in), 10 PA0/HVOD (oc)

## CH525K
designator U?
8 bit RISC MCU with USB PD & type-C power manager
footprint SOT-23-6
pins: 1 VDD (power), 2 GND (power), 3 PA0/HVOD (oc), 4 PA2/CC0 (io), 5 PA3/CC1 (io), 6 FB (out)

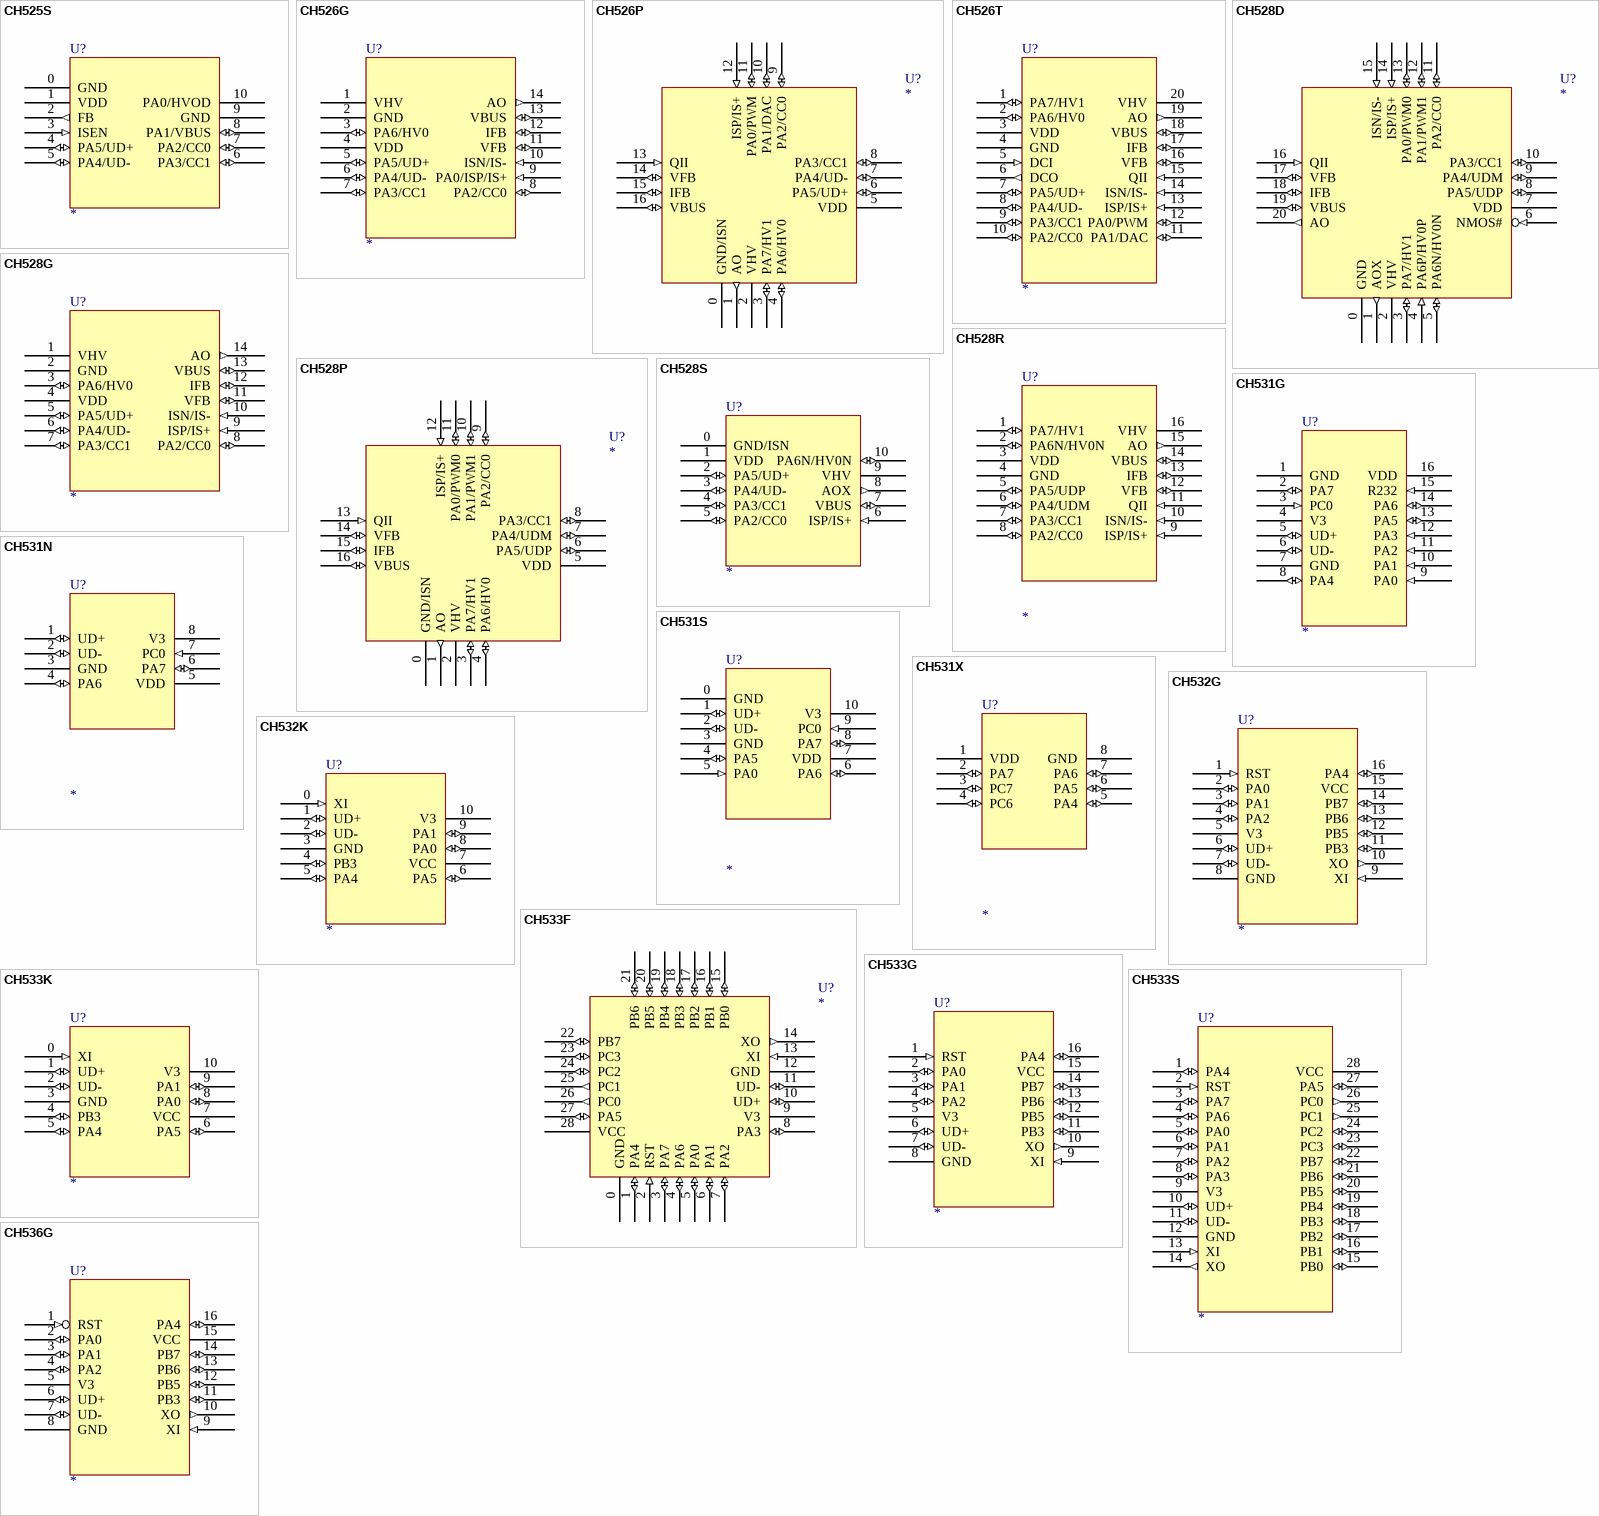
[diagram p20: symbols CH525S to CH536G]

## CH525S
designator U?
8 bit RISC MCU with USB PD & type-C power manager
footprint ESSOP10
pins: 0 GND (power), 1 VDD (power), 2 FB (out), 3 ISEN (in), 4 PA5/UD+ (io), 5 PA4/UD- (io), 6 PA3/CC1 (io), 7 PA2/CC0 (io), 8 PA1/VBUS (io), 9 GND (power), 10 PA0/HVOD (oc)

## CH526G
designator U?
8 bit RISC MCU with USB PD & type-C high voltage power manager
footprint SOP14
footprint DIP14
pins: 1 VHV (power), 2 GND (power), 3 PA6/HV0 (io), 4 VDD (power), 5 PA5/UD+ (io), 6 PA4/UD- (io), 7 PA3/CC1 (io), 8 PA2/CC0 (io), 9 PA0/ISP/IS+ (in), 10 ISN/IS- (in), 11 VFB (io), 12 IFB (io), 13 VBUS (io), 14 AO (out)

## CH526P
designator U?
8 bit RISC MCU with USB PD & type-C & QI high voltage power manager
footprint QFN16_3X3
pins: 0 GND/ISN (power), 1 AO (out), 2 VHV (power), 3 PA7/HV1 (io), 4 PA6/HV0 (io), 5 VDD (power), 6 PA5/UD+ (io), 7 PA4/UD- (io), 8 PA3/CC1 (io), 9 PA2/CC0 (io), 10 PA1/DAC (io), 11 PA0/PWM (io), 12 ISP/IS+ (in), 13 QII (in), 14 VFB (io), 15 IFB (io), 16 VBUS (io)

## CH526T
designator U?
8 bit RISC MCU with USB PD & type-C & QI high voltage power manager
footprint TSSOP20
footprint SOP20
footprint DIP20
pins: 1 PA7/HV1 (io), 2 PA6/HV0 (io), 3 VDD (power), 4 GND (power), 5 DCI (in), 6 DCO (out), 7 PA5/UD+ (io), 8 PA4/UD- (io), 9 PA3/CC1 (io), 10 PA2/CC0 (io), 11 PA1/DAC (io), 12 PA0/PWM (io), 13 ISP/IS+ (in), 14 ISN/IS- (in), 15 QII (in), 16 VFB (io), 17 IFB (io), 18 VBUS (io), 19 AO (out), 20 VHV (power)

## CH528D
designator U?
8 bit RISC MCU with USB PD & type-C & QI high voltage power manager
footprint QFN20_3X3
pins: 0 GND (power), 1 AOX (out), 2 VHV (power), 3 PA7/HV1 (io), 4 PA6P/HV0P (in), 5 PA6N/HV0N (io), 6 NMOS# (in), 7 VDD (power), 8 PA5/UDP (io), 9 PA4/UDM (io), 10 PA3/CC1 (io), 11 PA2/CC0 (io), 12 PA1/PWM1 (io), 13 PA0/PWM0 (io), 14 ISP/IS+ (in), 15 ISN/IS- (in), 16 QII (in), 17 VFB (io), 18 IFB (io), 19 VBUS (io), 20 AO (out)

## CH528G
designator U?
8 bit RISC MCU with USB PD & type-C high voltage power manager
footprint SOP14
footprint DIP14
pins: 1 VHV (power), 2 GND (power), 3 PA6/HV0 (io), 4 VDD (power), 5 PA5/UD+ (io), 6 PA4/UD- (io), 7 PA3/CC1 (io), 8 PA2/CC0 (io), 9 ISP/IS+ (in), 10 ISN/IS- (in), 11 VFB (io), 12 IFB (io), 13 VBUS (io), 14 AO (out)

## CH528P
designator U?
8 bit RISC MCU with USB PD & type-C & QI high voltage power manager
footprint QFN16_3X3
pins: 0 GND/ISN (power), 1 AO (out), 2 VHV (power), 3 PA7/HV1 (io), 4 PA6/HV0 (io), 5 VDD (power), 6 PA5/UDP (io), 7 PA4/UDM (io), 8 PA3/CC1 (io), 9 PA2/CC0 (io), 10 PA1/PWM1 (io), 11 PA0/PWM0 (io), 12 ISP/IS+ (in), 13 QII (in), 14 VFB (io), 15 IFB (io), 16 VBUS (io)

## CH528R
designator U?
8 bit RISC MCU with USB PD & type-C & QI high voltage power manager
footprint TSSOP16 (Footprint not found)
pins: 1 PA7/HV1 (io), 2 PA6N/HV0N (io), 3 VDD (power), 4 GND (power), 5 PA5/UDP (io), 6 PA4/UDM (io), 7 PA3/CC1 (io), 8 PA2/CC0 (io), 9 ISP/IS+ (in), 10 ISN/IS- (in), 11 QII (in), 12 VFB (io), 13 IFB (io), 14 VBUS (io), 15 AO (out), 16 VHV (power)
2 alternate drawings of the same symbol

## CH528S
designator U?
8 bit RISC MCU with USB PD & type-C high voltage power manager
footprint ESSOP10
pins: 0 GND/ISN (power), 1 VDD (power), 2 PA5/UD+ (io), 3 PA4/UD- (io), 4 PA3/CC1 (io), 5 PA2/CC0 (io), 6 ISP/IS+ (in), 7 VBUS (io), 8 AOX (out), 9 VHV (power), 10 PA6N/HV0N (io)

## CH531G
designator U?
8 bit RISC MCU with USB host & device
footprint SOP16
footprint DIP16
pins: 1 GND (power), 2 PA7 (io), 3 PC0 (in), 4 V3 (power), 5 UD+ (io), 6 UD- (io), 7 GND (power), 8 PA4 (io), 9 PA0 (in), 10 PA1 (in), 11 PA2 (in), 12 PA3 (in), 13 PA5 (io), 14 PA6 (io), 15 R232 (in), 16 VDD (power)

## CH531N
designator U?
8 bit RISC MCU with USB host & device
footprint SOP8 (Footprint not found)
pins: 1 UD+ (io), 2 UD- (io), 3 GND (power), 4 PA6 (io), 5 VDD (power), 6 PA7 (io), 7 PC0 (in), 8 V3 (power)

## CH531S
designator U?
8 bit RISC MCU with USB host & device
footprint ESSOP10 (Footprint not found)
pins: 0 GND (power), 1 UD+ (io), 2 UD- (io), 3 GND (power), 4 PA5 (io), 5 PA0 (in), 6 PA6 (io), 7 VDD (power), 8 PA7 (io), 9 PC0 (in), 10 V3 (power)

## CH531X
designator U?
8 bit RISC MCU
footprint SOP8 (Footprint not found)
pins: 1 VDD (power), 2 PA7 (io), 3 PC7 (io), 4 PC6 (io), 5 PA4 (io), 6 PA5 (io), 7 PA6 (io), 8 GND (power)

## CH532G
designator U?
8 bit RISC MCU with USB device
footprint SOP16
footprint DIP16
pins: 1 RST (in), 2 PA0 (io), 3 PA1 (io), 4 PA2 (io), 5 V3 (power), 6 UD+ (io), 7 UD- (io), 8 GND (power), 9 XI (in), 10 XO (out), 11 PB3 (io), 12 PB5 (io), 13 PB6 (io), 14 PB7 (io), 15 VCC (power), 16 PA4 (io)

## CH532K
designator U?
8 bit RISC MCU with USB device
footprint ESSOP10
pins: 0 XI (in), 1 UD+ (io), 2 UD- (io), 3 GND (power), 4 PB3 (io), 5 PA4 (io), 6 PA5 (io), 7 VCC (power), 8 PA0 (io), 9 PA1 (io), 10 V3 (power)

## CH533F
designator U?
8 bit RISC MCU with USB host & device
footprint QFN28_4X4
pins: 0 GND (power), 1 PA4 (io), 2 RST (in), 3 PA7 (io), 4 PA6 (io), 5 PA0 (io), 6 PA1 (io), 7 PA2 (io), 8 PA3 (io), 9 V3 (power), 10 UD+ (io), 11 UD- (io), 12 GND (power), 13 XI (in), 14 XO (out), 15 PB0 (io), 16 PB1 (io), 17 PB2 (io), 18 PB3 (io), 19 PB4 (io), 20 PB5 (io), 21 PB6 (io), 22 PB7 (io), 23 PC3 (io), 24 PC2 (io), 25 PC1 (out), 26 PC0 (out), 27 PA5 (io), 28 VCC (power)

## CH533G
designator U?
8 bit RISC MCU with USB host & device
footprint SOP16
footprint DIP16
pins: 1 RST (in), 2 PA0 (io), 3 PA1 (io), 4 PA2 (io), 5 V3 (power), 6 UD+ (io), 7 UD- (io), 8 GND (power), 9 XI (in), 10 XO (out), 11 PB3 (io), 12 PB5 (io), 13 PB6 (io), 14 PB7 (io), 15 VCC (power), 16 PA4 (io)

## CH533K
designator U?
8 bit RISC MCU with USB host & device
footprint ESSOP10
pins: 0 XI (in), 1 UD+ (io), 2 UD- (io), 3 GND (power), 4 PB3 (io), 5 PA4 (io), 6 PA5 (io), 7 VCC (power), 8 PA0 (io), 9 PA1 (io), 10 V3 (power)

## CH533S
designator U?
8 bit RISC MCU with USB host & device
footprint SOP28
footprint TSSOP28
footprint DIP28
pins: 1 PA4 (io), 2 RST (in), 3 PA7 (io), 4 PA6 (io), 5 PA0 (io), 6 PA1 (io), 7 PA2 (io), 8 PA3 (io), 9 V3 (power), 10 UD+ (io), 11 UD- (io), 12 GND (power), 13 XI (in), 14 XO (out), 15 PB0 (io), 16 PB1 (io), 17 PB2 (io), 18 PB3 (io), 19 PB4 (io), 20 PB5 (io), 21 PB6 (io), 22 PB7 (io), 23 PC3 (io), 24 PC2 (io), 25 PC1 (out), 26 PC0 (out), 27 PA5 (io), 28 VCC (power)

## CH536G
designator U?
8 bit RISC MCU with USB host & device
footprint SOP16
footprint DIP16
pins: 1 RST (in), 2 PA0 (io), 3 PA1 (io), 4 PA2 (io), 5 V3 (power), 6 UD+ (io), 7 UD- (io), 8 GND (power), 9 XI (in), 10 XO (out), 11 PB3 (io), 12 PB5 (io), 13 PB6 (io), 14 PB7 (io), 15 VCC (power), 16 PA4 (io)

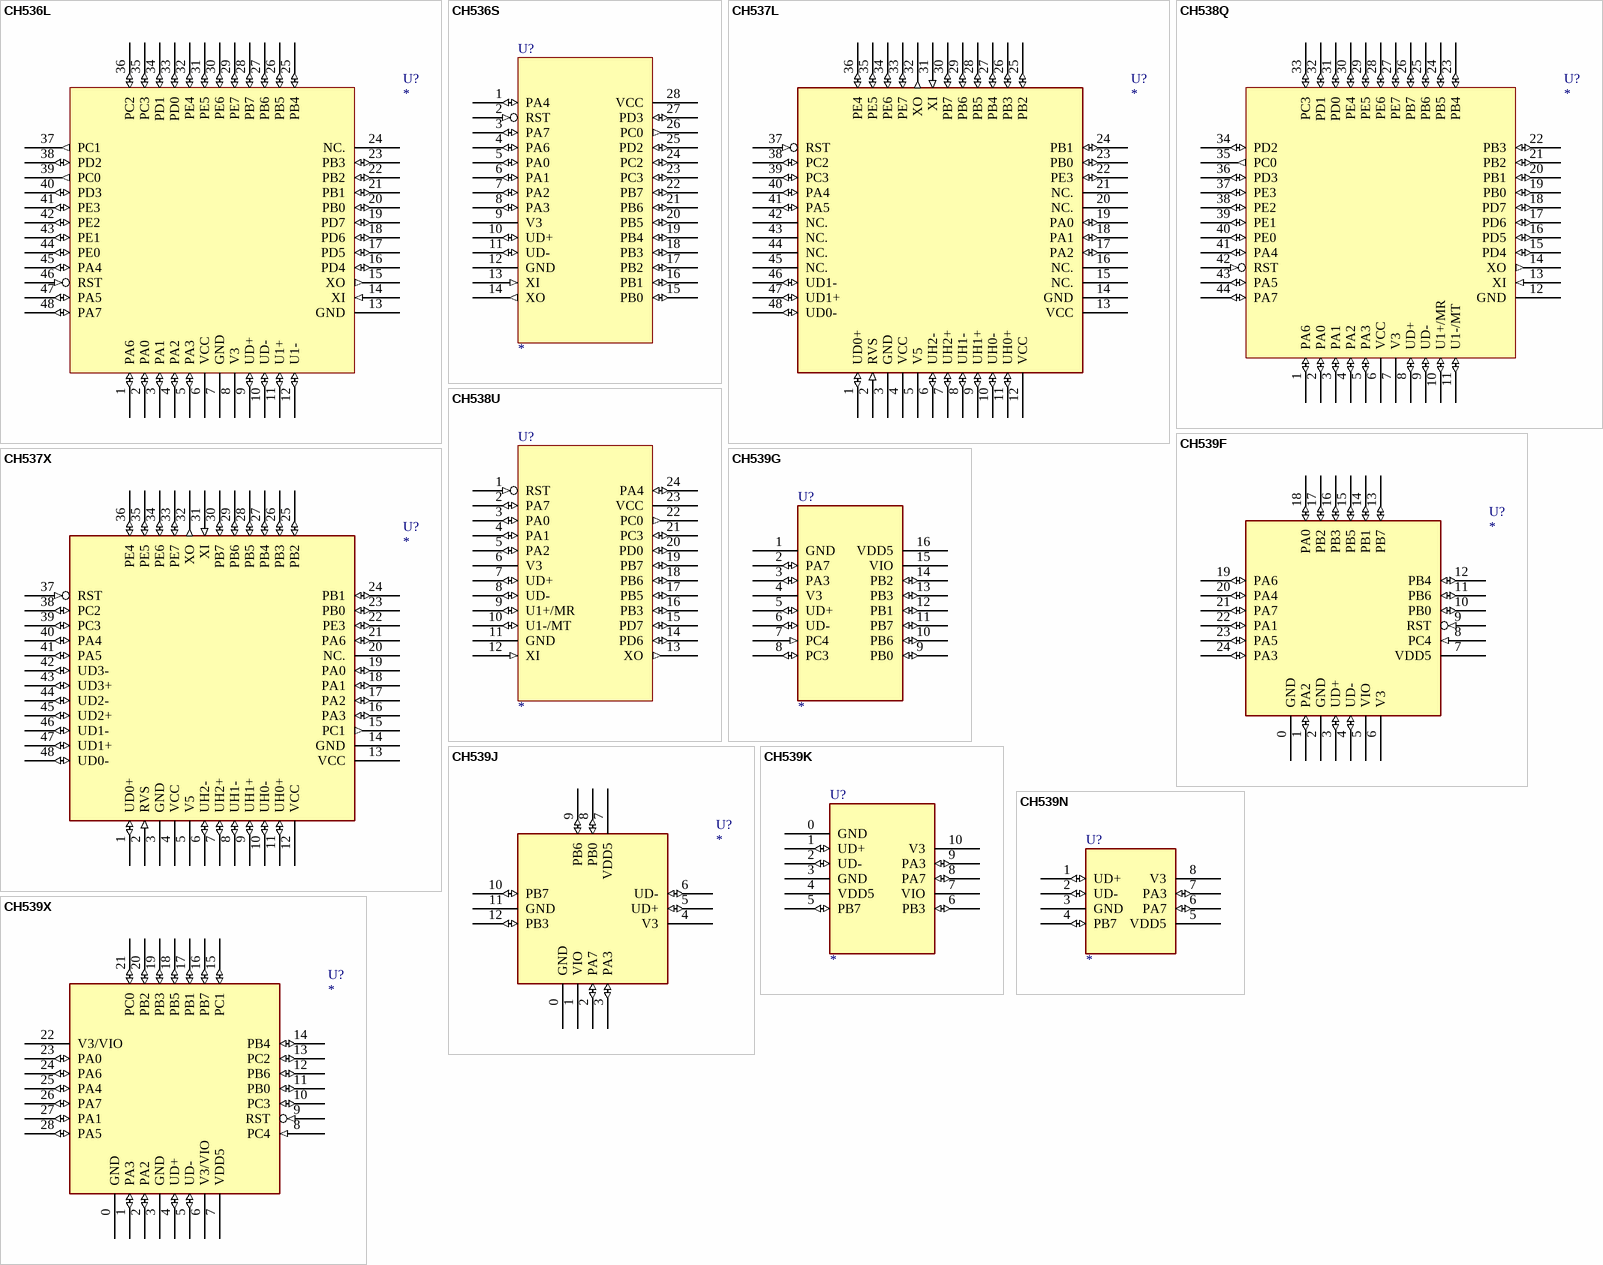
[diagram p21: symbols CH536L to CH539X]

## CH536L
designator U?
8 bit RISC MCU with USB host & device
footprint LQFP48
pins: 1 PA6 (io), 2 PA0 (io), 3 PA1 (io), 4 PA2 (io), 5 PA3 (io), 6 VCC (power), 7 GND (power), 8 V3 (power), 9 UD+ (io), 10 UD- (io), 11 U1+ (io), 12 U1- (io), 13 GND (power), 14 XI (in), 15 XO (out), 16 PD4 (io), 17 PD5 (io), 18 PD6 (io), 19 PD7 (io), 20 PB0 (io), 21 PB1 (io), 22 PB2 (io), 23 PB3 (io), 24 NC., 25 PB4 (io), 26 PB5 (io), 27 PB6 (io), 28 PB7 (io), 29 PE7 (io), 30 PE6 (io), 31 PE5 (io), 32 PE4 (io), 33 PD0 (io), 34 PD1 (io), 35 PC3 (io), 36 PC2 (io), 37 PC1 (out), 38 PD2 (io), 39 PC0 (out), 40 PD3 (io), 41 PE3 (io), 42 PE2 (io), 43 PE1 (io), 44 PE0 (io), 45 PA4 (io), 46 RST (in), 47 PA5 (io), 48 PA7 (io)

## CH536S
designator U?
8 bit RISC MCU with USB host & device
footprint SOP28
footprint DIP28
pins: 1 PA4 (io), 2 RST (in), 3 PA7 (io), 4 PA6 (io), 5 PA0 (io), 6 PA1 (io), 7 PA2 (io), 8 PA3 (io), 9 V3 (power), 10 UD+ (io), 11 UD- (io), 12 GND (power), 13 XI (in), 14 XO (out), 15 PB0 (io), 16 PB1 (io), 17 PB2 (io), 18 PB3 (io), 19 PB4 (io), 20 PB5 (io), 21 PB6 (io), 22 PB7 (io), 23 PC3 (io), 24 PC2 (io), 25 PD2 (io), 26 PC0 (out), 27 PD3 (io), 28 VCC (power)

## CH537L
designator U?
8 bit RISC Flash MCU for 2 PC KVM, include 3 USB host and 2 USB device
footprint LQFP48
pins: 1 UD0+ (io), 2 RVS (in), 3 GND (power), 4 VCC (power), 5 V5 (power), 6 UH2- (io), 7 UH2+ (io), 8 UH1- (io), 9 UH1+ (io), 10 UH0- (io), 11 UH0+ (io), 12 VCC (power), 13 VCC (power), 14 GND (power), 15 NC., 16 NC., 17 PA2 (io), 18 PA1 (io), 19 PA0 (io), 20 NC., 21 NC., 22 PE3 (io), 23 PB0 (io), 24 PB1 (io), 25 PB2 (io), 26 PB3 (io), 27 PB4 (io), 28 PB5 (io), 29 PB6 (io), 30 PB7 (io), 31 XI (in), 32 XO (out), 33 PE7 (io), 34 PE6 (io), 35 PE5 (io), 36 PE4 (io), 37 RST (in), 38 PC2 (io), 39 PC3 (io), 40 PA4 (io), 41 PA5 (io), 42 NC., 43 NC., 44 NC., 45 NC., 46 UD1- (io), 47 UD1+ (io), 48 UD0- (io)

## CH537X
designator U?
8 bit RISC Flash MCU for 4 PC KVM, include 3 USB host and 4 USB device
footprint LQFP48
pins: 1 UD0+ (io), 2 RVS (in), 3 GND (power), 4 VCC (power), 5 V5 (power), 6 UH2- (io), 7 UH2+ (io), 8 UH1- (io), 9 UH1+ (io), 10 UH0- (io), 11 UH0+ (io), 12 VCC (power), 13 VCC (power), 14 GND (power), 15 PC1 (out), 16 PA3 (io), 17 PA2 (io), 18 PA1 (io), 19 PA0 (io), 20 NC., 21 PA6 (io), 22 PE3 (io), 23 PB0 (io), 24 PB1 (io), 25 PB2 (io), 26 PB3 (io), 27 PB4 (io), 28 PB5 (io), 29 PB6 (io), 30 PB7 (io), 31 XI (in), 32 XO (out), 33 PE7 (io), 34 PE6 (io), 35 PE5 (io), 36 PE4 (io), 37 RST (in), 38 PC2 (io), 39 PC3 (io), 40 PA4 (io), 41 PA5 (io), 42 UD3- (io), 43 UD3+ (io), 44 UD2- (io), 45 UD2+ (io), 46 UD1- (io), 47 UD1+ (io), 48 UD0- (io)

## CH538Q
designator U?
8 bit RISC MCU with USB host/device and MFM en/decode
footprint LQFP44
pins: 1 PA6 (io), 2 PA0 (io), 3 PA1 (io), 4 PA2 (io), 5 PA3 (io), 6 VCC (power), 7 V3 (power), 8 UD+ (io), 9 UD- (io), 10 U1+/MR (io), 11 U1-/MT (io), 12 GND (power), 13 XI (in), 14 XO (out), 15 PD4 (io), 16 PD5 (io), 17 PD6 (io), 18 PD7 (io), 19 PB0 (io), 20 PB1 (io), 21 PB2 (io), 22 PB3 (io), 23 PB4 (io), 24 PB5 (io), 25 PB6 (io), 26 PB7 (io), 27 PE7 (io), 28 PE6 (io), 29 PE5 (io), 30 PE4 (io), 31 PD0 (io), 32 PD1 (io), 33 PC3 (io), 34 PD2 (io), 35 PC0 (out), 36 PD3 (io), 37 PE3 (io), 38 PE2 (io), 39 PE1 (io), 40 PE0 (io), 41 PA4 (io), 42 RST (in), 43 PA5 (io), 44 PA7 (io)

## CH538U
designator U?
8 bit RISC MCU with USB host/device and MFM en/decode
footprint SSOP24
pins: 1 RST (in), 2 PA7 (io), 3 PA0 (io), 4 PA1 (io), 5 PA2 (io), 6 V3 (power), 7 UD+ (io), 8 UD- (io), 9 U1+/MR (io), 10 U1-/MT (io), 11 GND (power), 12 XI (in), 13 XO (out), 14 PD6 (io), 15 PD7 (io), 16 PB3 (io), 17 PB5 (io), 18 PB6 (io), 19 PB7 (io), 20 PD0 (io), 21 PC3 (io), 22 PC0 (out), 23 VCC (power), 24 PA4 (io)

## CH539F
designator U?
8 bit RISC MCU with USB host & device & UART
footprint QFN24_4X4
pins: 0 GND (power), 1 PA2 (io), 2 GND (power), 3 UD+ (io), 4 UD- (io), 5 VIO (power), 6 V3 (power), 7 VDD5 (power), 8 PC4 (in), 9 RST (in), 10 PB0 (io), 11 PB6 (io), 12 PB4 (io), 13 PB7 (io), 14 PB1 (io), 15 PB5 (io), 16 PB3 (io), 17 PB2 (io), 18 PA0 (io), 19 PA6 (io), 20 PA4 (io), 21 PA7 (io), 22 PA1 (io), 23 PA5 (io), 24 PA3 (io)

## CH539G
designator U?
8 bit RISC MCU with USB host & device & UART
footprint SOP16
footprint DIP16
pins: 1 GND (power), 2 PA7 (io), 3 PA3 (io), 4 V3 (power), 5 UD+ (io), 6 UD- (io), 7 PC4 (in), 8 PC3 (io), 9 PB0 (io), 10 PB6 (io), 11 PB7 (io), 12 PB1 (io), 13 PB3 (io), 14 PB2 (io), 15 VIO (power), 16 VDD5 (power)

## CH539J
designator U?
8 bit RISC MCU with USB host & device & UART
footprint QFN12_2X2
pins: 0 GND (power), 1 VIO (power), 2 PA7 (io), 3 PA3 (io), 4 V3 (power), 5 UD+ (io), 6 UD- (io), 7 VDD5 (power), 8 PB0 (io), 9 PB6 (io), 10 PB7 (io), 11 GND (power), 12 PB3 (io)

## CH539K
designator U?
8 bit RISC MCU with USB host & device & UART
footprint ESSOP10
pins: 0 GND (power), 1 UD+ (io), 2 UD- (io), 3 GND (power), 4 VDD5 (power), 5 PB7 (io), 6 PB3 (io), 7 VIO (power), 8 PA7 (io), 9 PA3 (io), 10 V3 (power)

## CH539N
designator U?
8 bit RISC MCU with USB host & device & UART
footprint SOP8
footprint DIP8
pins: 1 UD+ (io), 2 UD- (io), 3 GND (power), 4 PB7 (io), 5 VDD5 (power), 6 PA7 (io), 7 PA3 (io), 8 V3 (power)
2 alternate drawings of the same symbol

## CH539X
designator U?
8 bit RISC MCU with USB host & device & UART
footprint QFN28_5X5
pins: 0 GND (power), 1 PA3 (io), 2 PA2 (io), 3 GND (power), 4 UD+ (io), 5 UD- (io), 6 V3/VIO (power), 7 VDD5 (power), 8 PC4 (in), 9 RST (in), 10 PC3 (io), 11 PB0 (io), 12 PB6 (io), 13 PC2 (io), 14 PB4 (io), 15 PC1 (io), 16 PB7 (io), 17 PB1 (io), 18 PB5 (io), 19 PB3 (io), 20 PB2 (io), 21 PC0 (io), 22 V3/VIO (power), 23 PA0 (io), 24 PA6 (io), 25 PA4 (io), 26 PA7 (io), 27 PA1 (io), 28 PA5 (io)
2 alternate drawings of the same symbol

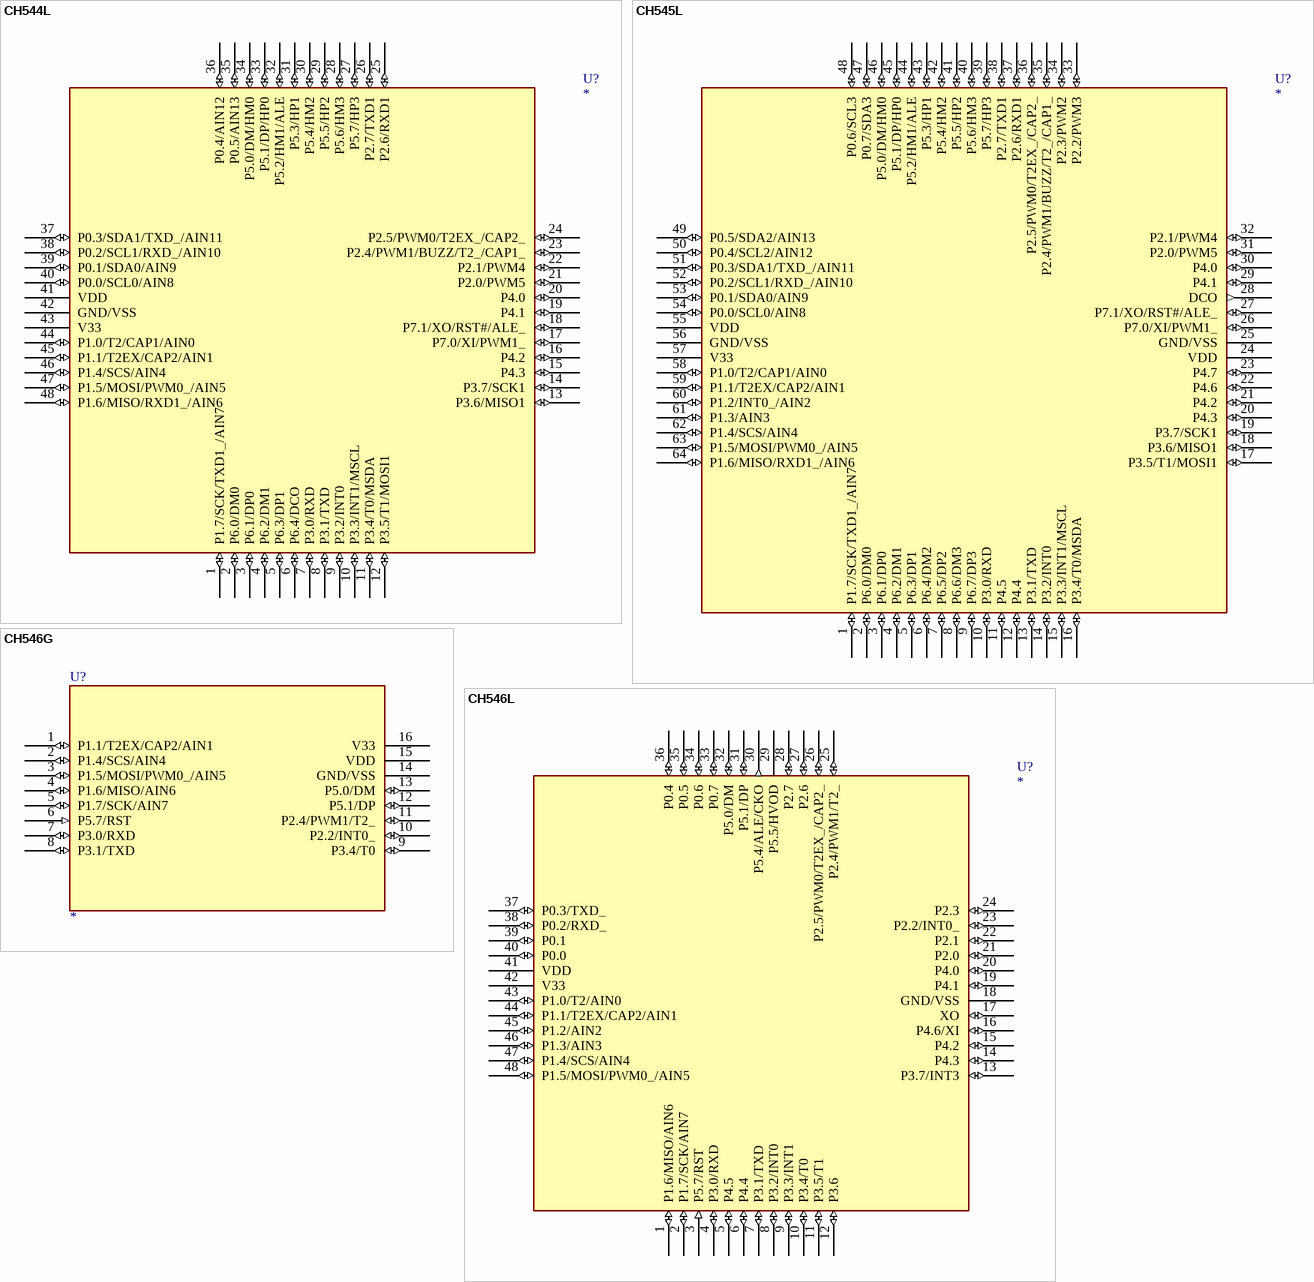
[diagram p22: symbols CH544L to CH546L]

## CH544L
designator U?
8bit MCS51 MCU with ADC & USB host 4 ports & KVM2 device & dual UART & SPI & dual I2C
footprint LQFP48
pins: 1 P1.7/SCK/TXD1_/AIN7 (io), 2 P6.0/DM0 (io), 3 P6.1/DP0 (io), 4 P6.2/DM1 (io), 5 P6.3/DP1 (io), 6 P6.4/DCO (io), 7 P3.0/RXD (io), 8 P3.1/TXD (io), 9 P3.2/INT0 (io), 10 P3.3/INT1/MSCL (io), 11 P3.4/T0/MSDA (io), 12 P3.5/T1/MOSI1 (io), 13 P3.6/MISO1 (io), 14 P3.7/SCK1 (io), 15 P4.3 (io), 16 P4.2 (io), 17 P7.0/XI/PWM1_ (io), 18 P7.1/XO/RST#/ALE_ (io), 19 P4.1 (io), 20 P4.0 (io), 21 P2.0/PWM5 (io), 22 P2.1/PWM4 (io), 23 P2.4/PWM1/BUZZ/T2_/CAP1_ (io), 24 P2.5/PWM0/T2EX_/CAP2_ (io), 25 P2.6/RXD1 (io), 26 P2.7/TXD1 (io), 27 P5.7/HP3 (io), 28 P5.6/HM3 (io), 29 P5.5/HP2 (io), 30 P5.4/HM2 (io), 31 P5.3/HP1 (io), 32 P5.2/HM1/ALE (io), 33 P5.1/DP/HP0 (io), 34 P5.0/DM/HM0 (io), 35 P0.5/AIN13 (io), 36 P0.4/AIN12 (io), 37 P0.3/SDA1/TXD_/AIN11 (io), 38 P0.2/SCL1/RXD_/AIN10 (io), 39 P0.1/SDA0/AIN9 (io), 40 P0.0/SCL0/AIN8 (io), 41 VDD (power), 42 GND/VSS (power), 43 V33 (power), 44 P1.0/T2/CAP1/AIN0 (io), 45 P1.1/T2EX/CAP2/AIN1 (io), 46 P1.4/SCS/AIN4 (io), 47 P1.5/MOSI/PWM0_/AIN5 (io), 48 P1.6/MISO/RXD1_/AIN6 (io)

## CH545L
designator U?
8bit MCS51 MCU with ADC & USB host 4 ports & KVM4 device & dual UART & SPI & quad I2C
footprint LQFP64
pins: 1 P1.7/SCK/TXD1_/AIN7 (io), 2 P6.0/DM0 (io), 3 P6.1/DP0 (io), 4 P6.2/DM1 (io), 5 P6.3/DP1 (io), 6 P6.4/DM2 (io), 7 P6.5/DP2 (io), 8 P6.6/DM3 (io), 9 P6.7/DP3 (io), 10 P3.0/RXD (io), 11 P4.5 (io), 12 P4.4 (io), 13 P3.1/TXD (io), 14 P3.2/INT0 (io), 15 P3.3/INT1/MSCL (io), 16 P3.4/T0/MSDA (io), 17 P3.5/T1/MOSI1 (io), 18 P3.6/MISO1 (io), 19 P3.7/SCK1 (io), 20 P4.3 (io), 21 P4.2 (io), 22 P4.6 (io), 23 P4.7 (io), 24 VDD (power), 25 GND/VSS (power), 26 P7.0/XI/PWM1_ (io), 27 P7.1/XO/RST#/ALE_ (io), 28 DCO (out), 29 P4.1 (io), 30 P4.0 (io), 31 P2.0/PWM5 (io), 32 P2.1/PWM4 (io), 33 P2.2/PWM3 (io), 34 P2.3/PWM2 (io), 35 P2.4/PWM1/BUZZ/T2_/CAP1_ (io), 36 P2.5/PWM0/T2EX_/CAP2_ (io), 37 P2.6/RXD1 (io), 38 P2.7/TXD1 (io), 39 P5.7/HP3 (io), 40 P5.6/HM3 (io), 41 P5.5/HP2 (io), 42 P5.4/HM2 (io), 43 P5.3/HP1 (io), 44 P5.2/HM1/ALE (io), 45 P5.1/DP/HP0 (io), 46 P5.0/DM/HM0 (io), 47 P0.7/SDA3 (io), 48 P0.6/SCL3 (io), 49 P0.5/SDA2/AIN13 (io), 50 P0.4/SCL2/AIN12 (io), 51 P0.3/SDA1/TXD_/AIN11 (io), 52 P0.2/SCL1/RXD_/AIN10 (io), 53 P0.1/SDA0/AIN9 (io), 54 P0.0/SCL0/AIN8 (io), 55 VDD (power), 56 GND/VSS (power), 57 V33 (power), 58 P1.0/T2/CAP1/AIN0 (io), 59 P1.1/T2EX/CAP2/AIN1 (io), 60 P1.2/INT0_/AIN2 (io), 61 P1.3/AIN3 (io), 62 P1.4/SCS/AIN4 (io), 63 P1.5/MOSI/PWM0_/AIN5 (io), 64 P1.6/MISO/RXD1_/AIN6 (io)

## CH546G
designator U?
8bit MCS51 MCU with ADC & USB device & UART & SPI
footprint SOP16
footprint DIP16
pins: 1 P1.1/T2EX/CAP2/AIN1 (io), 2 P1.4/SCS/AIN4 (io), 3 P1.5/MOSI/PWM0_/AIN5 (io), 4 P1.6/MISO/AIN6 (io), 5 P1.7/SCK/AIN7 (io), 6 P5.7/RST (in), 7 P3.0/RXD (io), 8 P3.1/TXD (io), 9 P3.4/T0 (io), 10 P2.2/INT0_ (io), 11 P2.4/PWM1/T2_ (io), 12 P5.1/DP (io), 13 P5.0/DM (io), 14 GND/VSS (power), 15 VDD (power), 16 V33 (power)

## CH546L
designator U?
8bit MCS51 MCU with ADC & USB device & UART & SPI
footprint LQFP48
pins: 1 P1.6/MISO/AIN6 (io), 2 P1.7/SCK/AIN7 (io), 3 P5.7/RST (in), 4 P3.0/RXD (io), 5 P4.5 (io), 6 P4.4 (io), 7 P3.1/TXD (io), 8 P3.2/INT0 (io), 9 P3.3/INT1 (io), 10 P3.4/T0 (io), 11 P3.5/T1 (io), 12 P3.6 (io), 13 P3.7/INT3 (io), 14 P4.3 (io), 15 P4.2 (io), 16 P4.6/XI (io), 17 XO (io), 18 GND/VSS (power), 19 P4.1 (io), 20 P4.0 (io), 21 P2.0 (io), 22 P2.1 (io), 23 P2.2/INT0_ (io), 24 P2.3 (io), 25 P2.4/PWM1/T2_ (io), 26 P2.5/PWM0/T2EX_/CAP2_ (io), 27 P2.6 (io), 28 P2.7 (io), 29 P5.5/HVOD (oc), 30 P5.4/ALE/CKO (out), 31 P5.1/DP (io), 32 P5.0/DM (io), 33 P0.7 (io), 34 P0.6 (io), 35 P0.5 (io), 36 P0.4 (io), 37 P0.3/TXD_ (io), 38 P0.2/RXD_ (io), 39 P0.1 (io), 40 P0.0 (io), 41 VDD (power), 42 V33 (power), 43 P1.0/T2/AIN0 (io), 44 P1.1/T2EX/CAP2/AIN1 (io), 45 P1.2/AIN2 (io), 46 P1.3/AIN3 (io), 47 P1.4/SCS/AIN4 (io), 48 P1.5/MOSI/PWM0_/AIN5 (io)

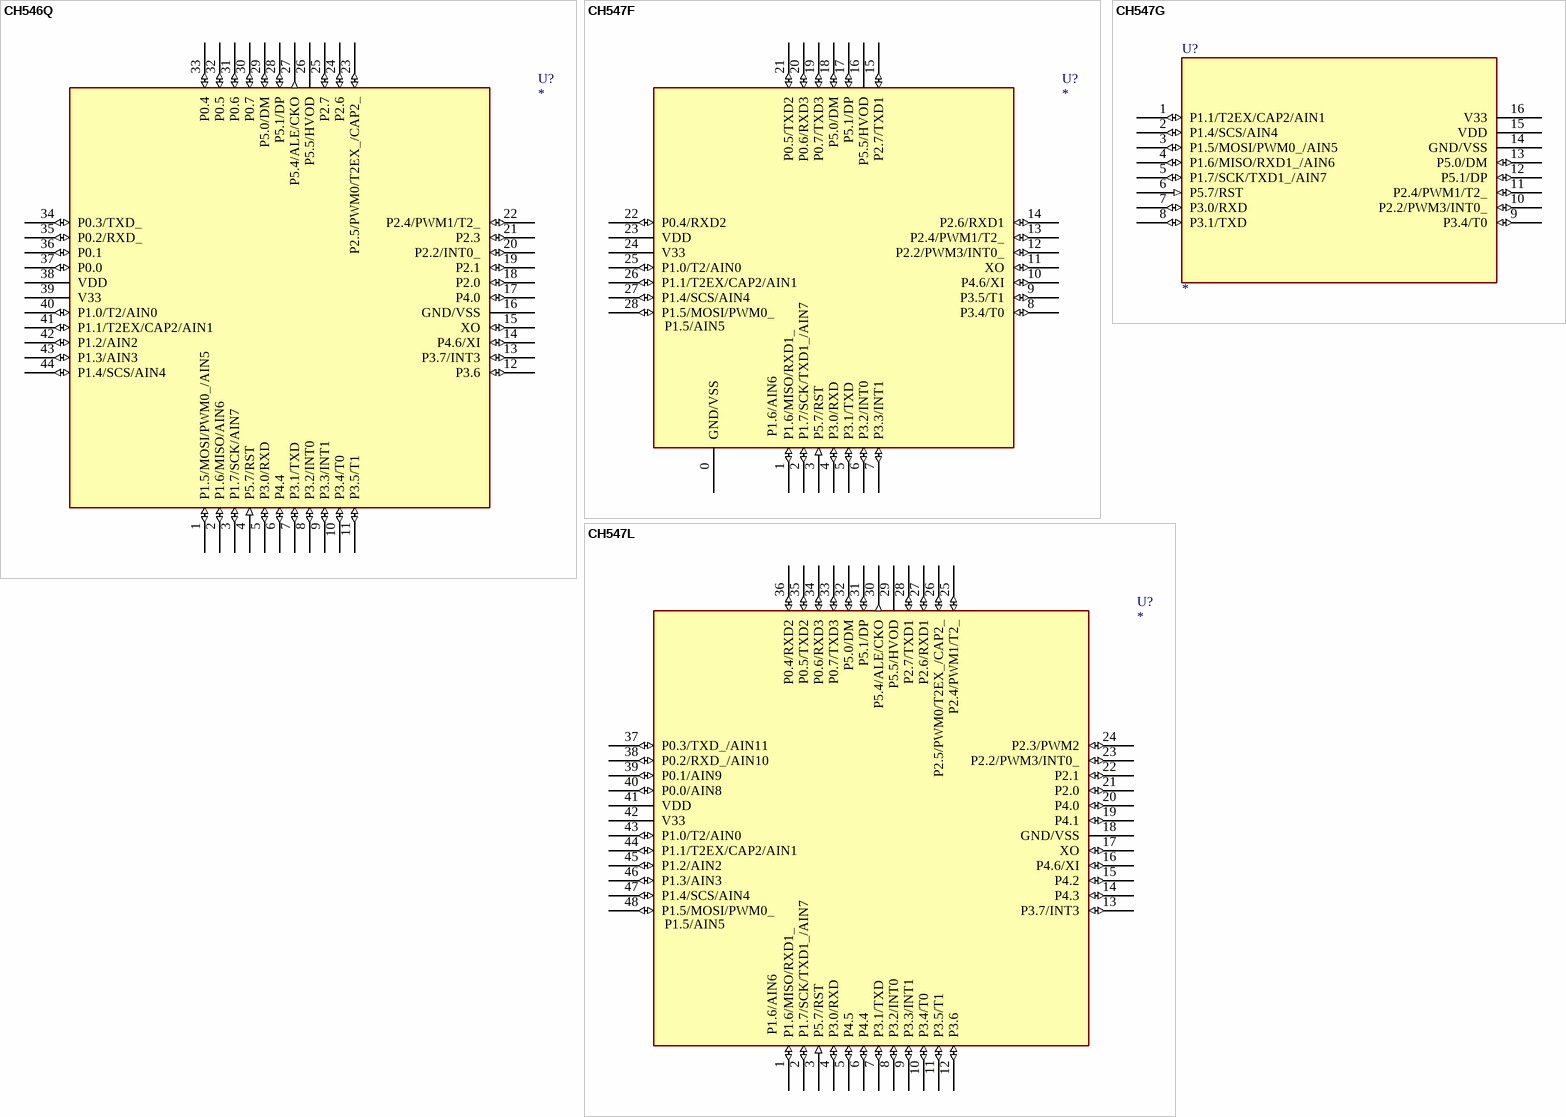
[diagram p23: symbols CH546Q to CH547L]

## CH546Q
designator U?
8bit MCS51 MCU with ADC & USB device & UART & SPI
footprint LQFP44
pins: 1 P1.5/MOSI/PWM0_/AIN5 (io), 2 P1.6/MISO/AIN6 (io), 3 P1.7/SCK/AIN7 (io), 4 P5.7/RST (in), 5 P3.0/RXD (io), 6 P4.4 (io), 7 P3.1/TXD (io), 8 P3.2/INT0 (io), 9 P3.3/INT1 (io), 10 P3.4/T0 (io), 11 P3.5/T1 (io), 12 P3.6 (io), 13 P3.7/INT3 (io), 14 P4.6/XI (io), 15 XO (io), 16 GND/VSS (power), 17 P4.0 (io), 18 P2.0 (io), 19 P2.1 (io), 20 P2.2/INT0_ (io), 21 P2.3 (io), 22 P2.4/PWM1/T2_ (io), 23 P2.5/PWM0/T2EX_/CAP2_ (io), 24 P2.6 (io), 25 P2.7 (io), 26 P5.5/HVOD (oc), 27 P5.4/ALE/CKO (out), 28 P5.1/DP (io), 29 P5.0/DM (io), 30 P0.7 (io), 31 P0.6 (io), 32 P0.5 (io), 33 P0.4 (io), 34 P0.3/TXD_ (io), 35 P0.2/RXD_ (io), 36 P0.1 (io), 37 P0.0 (io), 38 VDD (power), 39 V33 (power), 40 P1.0/T2/AIN0 (io), 41 P1.1/T2EX/CAP2/AIN1 (io), 42 P1.2/AIN2 (io), 43 P1.3/AIN3 (io), 44 P1.4/SCS/AIN4 (io)

## CH547F
designator U?
8bit MCS51 MCU with ADC & USB device & quad UART & SPI
footprint QFN28_4X4
pins: 0 GND/VSS (power), 1 P1.6/MISO/RXD1_ (io), 2 P1.7/SCK/TXD1_/AIN7 (io), 3 P5.7/RST (in), 4 P3.0/RXD (io), 5 P3.1/TXD (io), 6 P3.2/INT0 (io), 7 P3.3/INT1 (io), 8 P3.4/T0 (io), 9 P3.5/T1 (io), 10 P4.6/XI (io), 11 XO (io), 12 P2.2/PWM3/INT0_ (io), 13 P2.4/PWM1/T2_ (io), 14 P2.6/RXD1 (io), 15 P2.7/TXD1 (io), 16 P5.5/HVOD (oc), 17 P5.1/DP (io), 18 P5.0/DM (io), 19 P0.7/TXD3 (io), 20 P0.6/RXD3 (io), 21 P0.5/TXD2 (io), 22 P0.4/RXD2 (io), 23 VDD (power), 24 V33 (power), 25 P1.0/T2/AIN0 (io), 26 P1.1/T2EX/CAP2/AIN1 (io), 27 P1.4/SCS/AIN4 (io), 28 P1.5/MOSI/PWM0_ (io)
text: P1.5/AIN5; P1.6/AIN6

## CH547G
designator U?
8bit MCS51 MCU with ADC & USB device & dual UART & SPI
footprint SOP16
footprint DIP16
pins: 1 P1.1/T2EX/CAP2/AIN1 (io), 2 P1.4/SCS/AIN4 (io), 3 P1.5/MOSI/PWM0_/AIN5 (io), 4 P1.6/MISO/RXD1_/AIN6 (io), 5 P1.7/SCK/TXD1_/AIN7 (io), 6 P5.7/RST (in), 7 P3.0/RXD (io), 8 P3.1/TXD (io), 9 P3.4/T0 (io), 10 P2.2/PWM3/INT0_ (io), 11 P2.4/PWM1/T2_ (io), 12 P5.1/DP (io), 13 P5.0/DM (io), 14 GND/VSS (power), 15 VDD (power), 16 V33 (power)

## CH547L
designator U?
8bit MCS51 MCU with ADC & USB device & quad UART & SPI
footprint LQFP48
pins: 1 P1.6/MISO/RXD1_ (io), 2 P1.7/SCK/TXD1_/AIN7 (io), 3 P5.7/RST (in), 4 P3.0/RXD (io), 5 P4.5 (io), 6 P4.4 (io), 7 P3.1/TXD (io), 8 P3.2/INT0 (io), 9 P3.3/INT1 (io), 10 P3.4/T0 (io), 11 P3.5/T1 (io), 12 P3.6 (io), 13 P3.7/INT3 (io), 14 P4.3 (io), 15 P4.2 (io), 16 P4.6/XI (io), 17 XO (io), 18 GND/VSS (power), 19 P4.1 (io), 20 P4.0 (io), 21 P2.0 (io), 22 P2.1 (io), 23 P2.2/PWM3/INT0_ (io), 24 P2.3/PWM2 (io), 25 P2.4/PWM1/T2_ (io), 26 P2.5/PWM0/T2EX_/CAP2_ (io), 27 P2.6/RXD1 (io), 28 P2.7/TXD1 (io), 29 P5.5/HVOD (oc), 30 P5.4/ALE/CKO (out), 31 P5.1/DP (io), 32 P5.0/DM (io), 33 P0.7/TXD3 (io), 34 P0.6/RXD3 (io), 35 P0.5/TXD2 (io), 36 P0.4/RXD2 (io), 37 P0.3/TXD_/AIN11 (io), 38 P0.2/RXD_/AIN10 (io), 39 P0.1/AIN9 (io), 40 P0.0/AIN8 (io), 41 VDD (power), 42 V33 (power), 43 P1.0/T2/AIN0 (io), 44 P1.1/T2EX/CAP2/AIN1 (io), 45 P1.2/AIN2 (io), 46 P1.3/AIN3 (io), 47 P1.4/SCS/AIN4 (io), 48 P1.5/MOSI/PWM0_ (io)
text: P1.5/AIN5; P1.6/AIN6

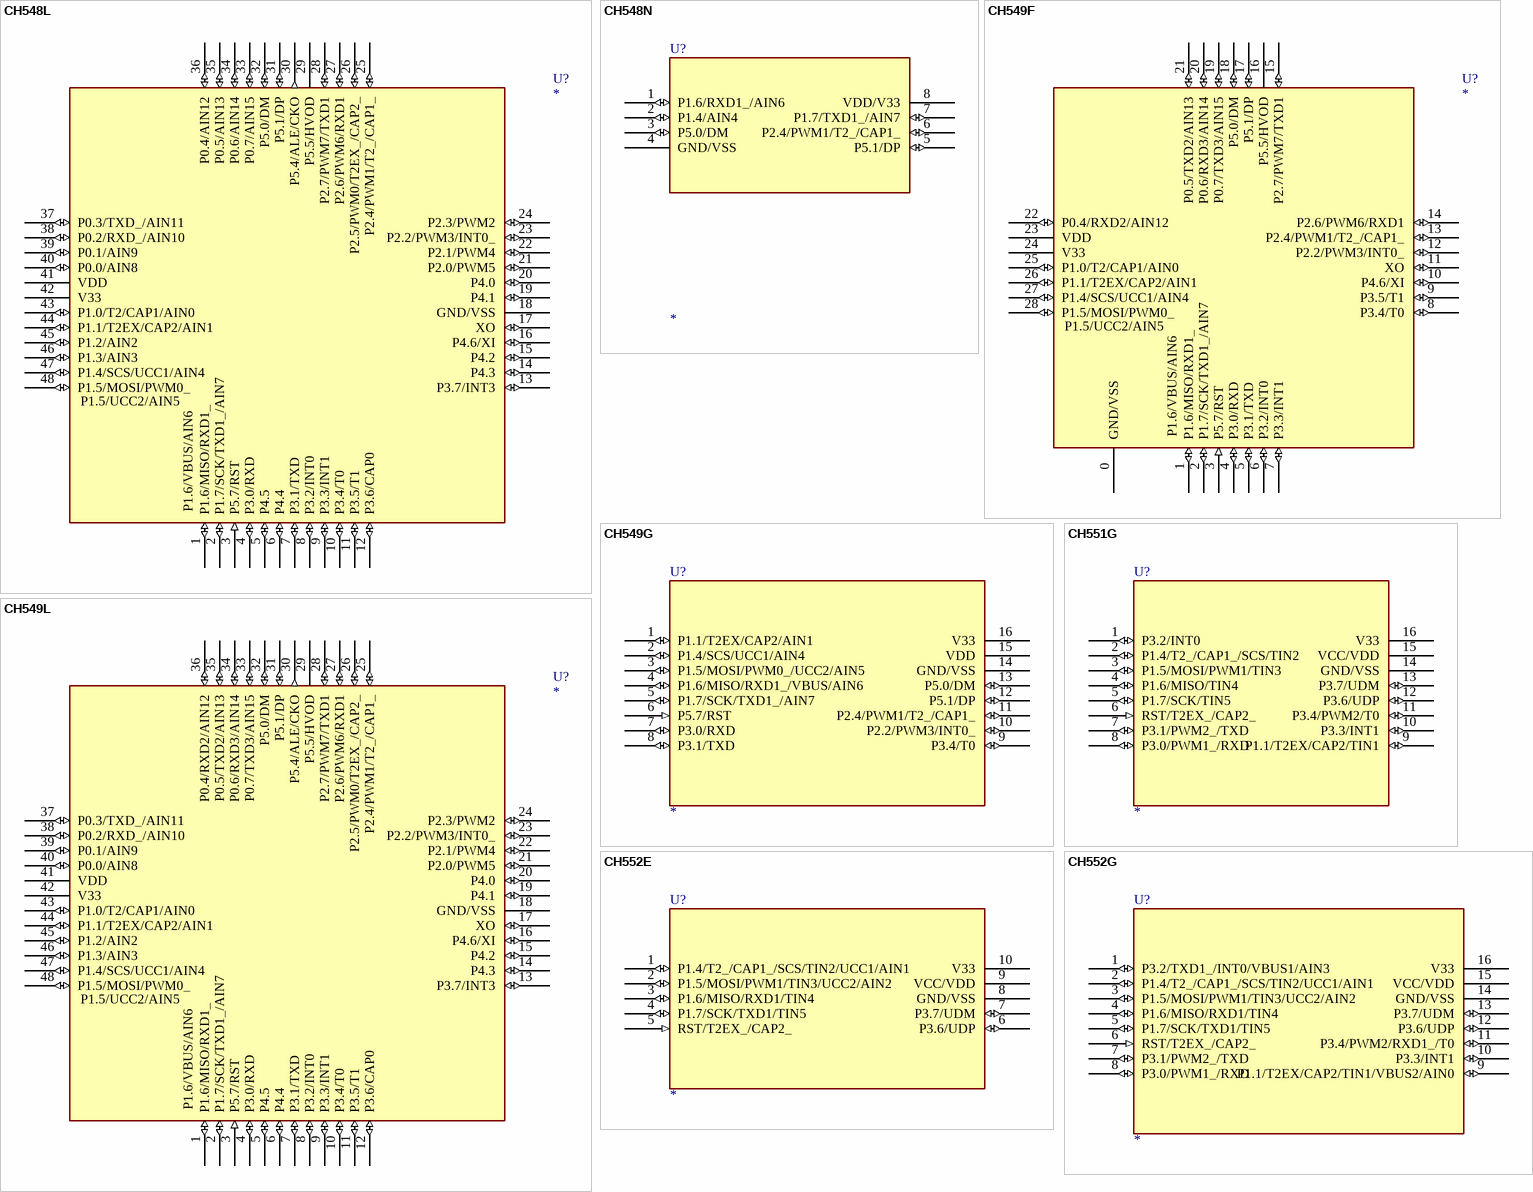
[diagram p24: symbols CH548L to CH552G]

## CH548L
designator U?
8bit MCS51 MCU with ADC & USB type-C host & device & double UART & SPI
footprint LQFP48
pins: 1 P1.6/MISO/RXD1_ (io), 2 P1.7/SCK/TXD1_/AIN7 (io), 3 P5.7/RST (in), 4 P3.0/RXD (io), 5 P4.5 (io), 6 P4.4 (io), 7 P3.1/TXD (io), 8 P3.2/INT0 (io), 9 P3.3/INT1 (io), 10 P3.4/T0 (io), 11 P3.5/T1 (io), 12 P3.6/CAP0 (io), 13 P3.7/INT3 (io), 14 P4.3 (io), 15 P4.2 (io), 16 P4.6/XI (io), 17 XO (io), 18 GND/VSS (power), 19 P4.1 (io), 20 P4.0 (io), 21 P2.0/PWM5 (io), 22 P2.1/PWM4 (io), 23 P2.2/PWM3/INT0_ (io), 24 P2.3/PWM2 (io), 25 P2.4/PWM1/T2_/CAP1_ (io), 26 P2.5/PWM0/T2EX_/CAP2_ (io), 27 P2.6/PWM6/RXD1 (io), 28 P2.7/PWM7/TXD1 (io), 29 P5.5/HVOD (oc), 30 P5.4/ALE/CKO (out), 31 P5.1/DP (io), 32 P5.0/DM (io), 33 P0.7/AIN15 (io), 34 P0.6/AIN14 (io), 35 P0.5/AIN13 (io), 36 P0.4/AIN12 (io), 37 P0.3/TXD_/AIN11 (io), 38 P0.2/RXD_/AIN10 (io), 39 P0.1/AIN9 (io), 40 P0.0/AIN8 (io), 41 VDD (power), 42 V33 (power), 43 P1.0/T2/CAP1/AIN0 (io), 44 P1.1/T2EX/CAP2/AIN1 (io), 45 P1.2/AIN2 (io), 46 P1.3/AIN3 (io), 47 P1.4/SCS/UCC1/AIN4 (io), 48 P1.5/MOSI/PWM0_ (io)
text: P1.5/UCC2/AIN5; P1.6/VBUS/AIN6

## CH548N
designator U?
8bit MCS51 MCU with ADC & USB host & device & UART
footprint SOP8 (Footprint not found)
pins: 1 P1.6/RXD1_/AIN6 (io), 2 P1.4/AIN4 (io), 3 P5.0/DM (io), 4 GND/VSS (power), 5 P5.1/DP (io), 6 P2.4/PWM1/T2_/CAP1_ (io), 7 P1.7/TXD1_/AIN7 (io), 8 VDD/V33 (power)
2 alternate drawings of the same symbol

## CH549F
designator U?
8bit MCS51 MCU with ADC & USB type-C host & device & quad UART & SPI
footprint QFN28_4X4
pins: 0 GND/VSS (power), 1 P1.6/MISO/RXD1_ (io), 2 P1.7/SCK/TXD1_/AIN7 (io), 3 P5.7/RST (in), 4 P3.0/RXD (io), 5 P3.1/TXD (io), 6 P3.2/INT0 (io), 7 P3.3/INT1 (io), 8 P3.4/T0 (io), 9 P3.5/T1 (io), 10 P4.6/XI (io), 11 XO (io), 12 P2.2/PWM3/INT0_ (io), 13 P2.4/PWM1/T2_/CAP1_ (io), 14 P2.6/PWM6/RXD1 (io), 15 P2.7/PWM7/TXD1 (io), 16 P5.5/HVOD (oc), 17 P5.1/DP (io), 18 P5.0/DM (io), 19 P0.7/TXD3/AIN15 (io), 20 P0.6/RXD3/AIN14 (io), 21 P0.5/TXD2/AIN13 (io), 22 P0.4/RXD2/AIN12 (io), 23 VDD (power), 24 V33 (power), 25 P1.0/T2/CAP1/AIN0 (io), 26 P1.1/T2EX/CAP2/AIN1 (io), 27 P1.4/SCS/UCC1/AIN4 (io), 28 P1.5/MOSI/PWM0_ (io)
text: P1.5/UCC2/AIN5; P1.6/VBUS/AIN6

## CH549G
designator U?
8bit MCS51 MCU with ADC & USB type-C host & device & dual UART & SPI
footprint SOP16
footprint DIP16
pins: 1 P1.1/T2EX/CAP2/AIN1 (io), 2 P1.4/SCS/UCC1/AIN4 (io), 3 P1.5/MOSI/PWM0_/UCC2/AIN5 (io), 4 P1.6/MISO/RXD1_/VBUS/AIN6 (io), 5 P1.7/SCK/TXD1_/AIN7 (io), 6 P5.7/RST (in), 7 P3.0/RXD (io), 8 P3.1/TXD (io), 9 P3.4/T0 (io), 10 P2.2/PWM3/INT0_ (io), 11 P2.4/PWM1/T2_/CAP1_ (io), 12 P5.1/DP (io), 13 P5.0/DM (io), 14 GND/VSS (power), 15 VDD (power), 16 V33 (power)

## CH549L
designator U?
8bit MCS51 MCU with ADC & USB type-C host & device & quad UART & SPI
footprint LQFP48
pins: 1 P1.6/MISO/RXD1_ (io), 2 P1.7/SCK/TXD1_/AIN7 (io), 3 P5.7/RST (in), 4 P3.0/RXD (io), 5 P4.5 (io), 6 P4.4 (io), 7 P3.1/TXD (io), 8 P3.2/INT0 (io), 9 P3.3/INT1 (io), 10 P3.4/T0 (io), 11 P3.5/T1 (io), 12 P3.6/CAP0 (io), 13 P3.7/INT3 (io), 14 P4.3 (io), 15 P4.2 (io), 16 P4.6/XI (io), 17 XO (io), 18 GND/VSS (power), 19 P4.1 (io), 20 P4.0 (io), 21 P2.0/PWM5 (io), 22 P2.1/PWM4 (io), 23 P2.2/PWM3/INT0_ (io), 24 P2.3/PWM2 (io), 25 P2.4/PWM1/T2_/CAP1_ (io), 26 P2.5/PWM0/T2EX_/CAP2_ (io), 27 P2.6/PWM6/RXD1 (io), 28 P2.7/PWM7/TXD1 (io), 29 P5.5/HVOD (oc), 30 P5.4/ALE/CKO (out), 31 P5.1/DP (io), 32 P5.0/DM (io), 33 P0.7/TXD3/AIN15 (io), 34 P0.6/RXD3/AIN14 (io), 35 P0.5/TXD2/AIN13 (io), 36 P0.4/RXD2/AIN12 (io), 37 P0.3/TXD_/AIN11 (io), 38 P0.2/RXD_/AIN10 (io), 39 P0.1/AIN9 (io), 40 P0.0/AIN8 (io), 41 VDD (power), 42 V33 (power), 43 P1.0/T2/CAP1/AIN0 (io), 44 P1.1/T2EX/CAP2/AIN1 (io), 45 P1.2/AIN2 (io), 46 P1.3/AIN3 (io), 47 P1.4/SCS/UCC1/AIN4 (io), 48 P1.5/MOSI/PWM0_ (io)
text: P1.5/UCC2/AIN5; P1.6/VBUS/AIN6

## CH551G
designator U?
8bit MCS51 MCU with SPI & UART & USB device
footprint SOP16
footprint DIP16
pins: 1 P3.2/INT0 (io), 2 P1.4/T2_/CAP1_/SCS/TIN2 (io), 3 P1.5/MOSI/PWM1/TIN3 (io), 4 P1.6/MISO/TIN4 (io), 5 P1.7/SCK/TIN5 (io), 6 RST/T2EX_/CAP2_ (in), 7 P3.1/PWM2_/TXD (io), 8 P3.0/PWM1_/RXD (io), 9 P1.1/T2EX/CAP2/TIN1 (io), 10 P3.3/INT1 (io), 11 P3.4/PWM2/T0 (io), 12 P3.6/UDP (io), 13 P3.7/UDM (io), 14 GND/VSS (power), 15 VCC/VDD (power), 16 V33 (power)

## CH552E
designator U?
8bit MCS51 MCU with ADC & SPI & USB device & dual UART
footprint MSOP10
pins: 1 P1.4/T2_/CAP1_/SCS/TIN2/UCC1/AIN1 (io), 2 P1.5/MOSI/PWM1/TIN3/UCC2/AIN2 (io), 3 P1.6/MISO/RXD1/TIN4 (io), 4 P1.7/SCK/TXD1/TIN5 (io), 5 RST/T2EX_/CAP2_ (in), 6 P3.6/UDP (io), 7 P3.7/UDM (io), 8 GND/VSS (power), 9 VCC/VDD (power), 10 V33 (power)

## CH552G
designator U?
8bit MCS51 MCU with ADC & SPI & USB device & dual UART
footprint SOP16
footprint DIP16
pins: 1 P3.2/TXD1_/INT0/VBUS1/AIN3 (io), 2 P1.4/T2_/CAP1_/SCS/TIN2/UCC1/AIN1 (io), 3 P1.5/MOSI/PWM1/TIN3/UCC2/AIN2 (io), 4 P1.6/MISO/RXD1/TIN4 (io), 5 P1.7/SCK/TXD1/TIN5 (io), 6 RST/T2EX_/CAP2_ (in), 7 P3.1/PWM2_/TXD (io), 8 P3.0/PWM1_/RXD (io), 9 P1.1/T2EX/CAP2/TIN1/VBUS2/AIN0 (io), 10 P3.3/INT1 (io), 11 P3.4/PWM2/RXD1_/T0 (io), 12 P3.6/UDP (io), 13 P3.7/UDM (io), 14 GND/VSS (power), 15 VCC/VDD (power), 16 V33 (power)

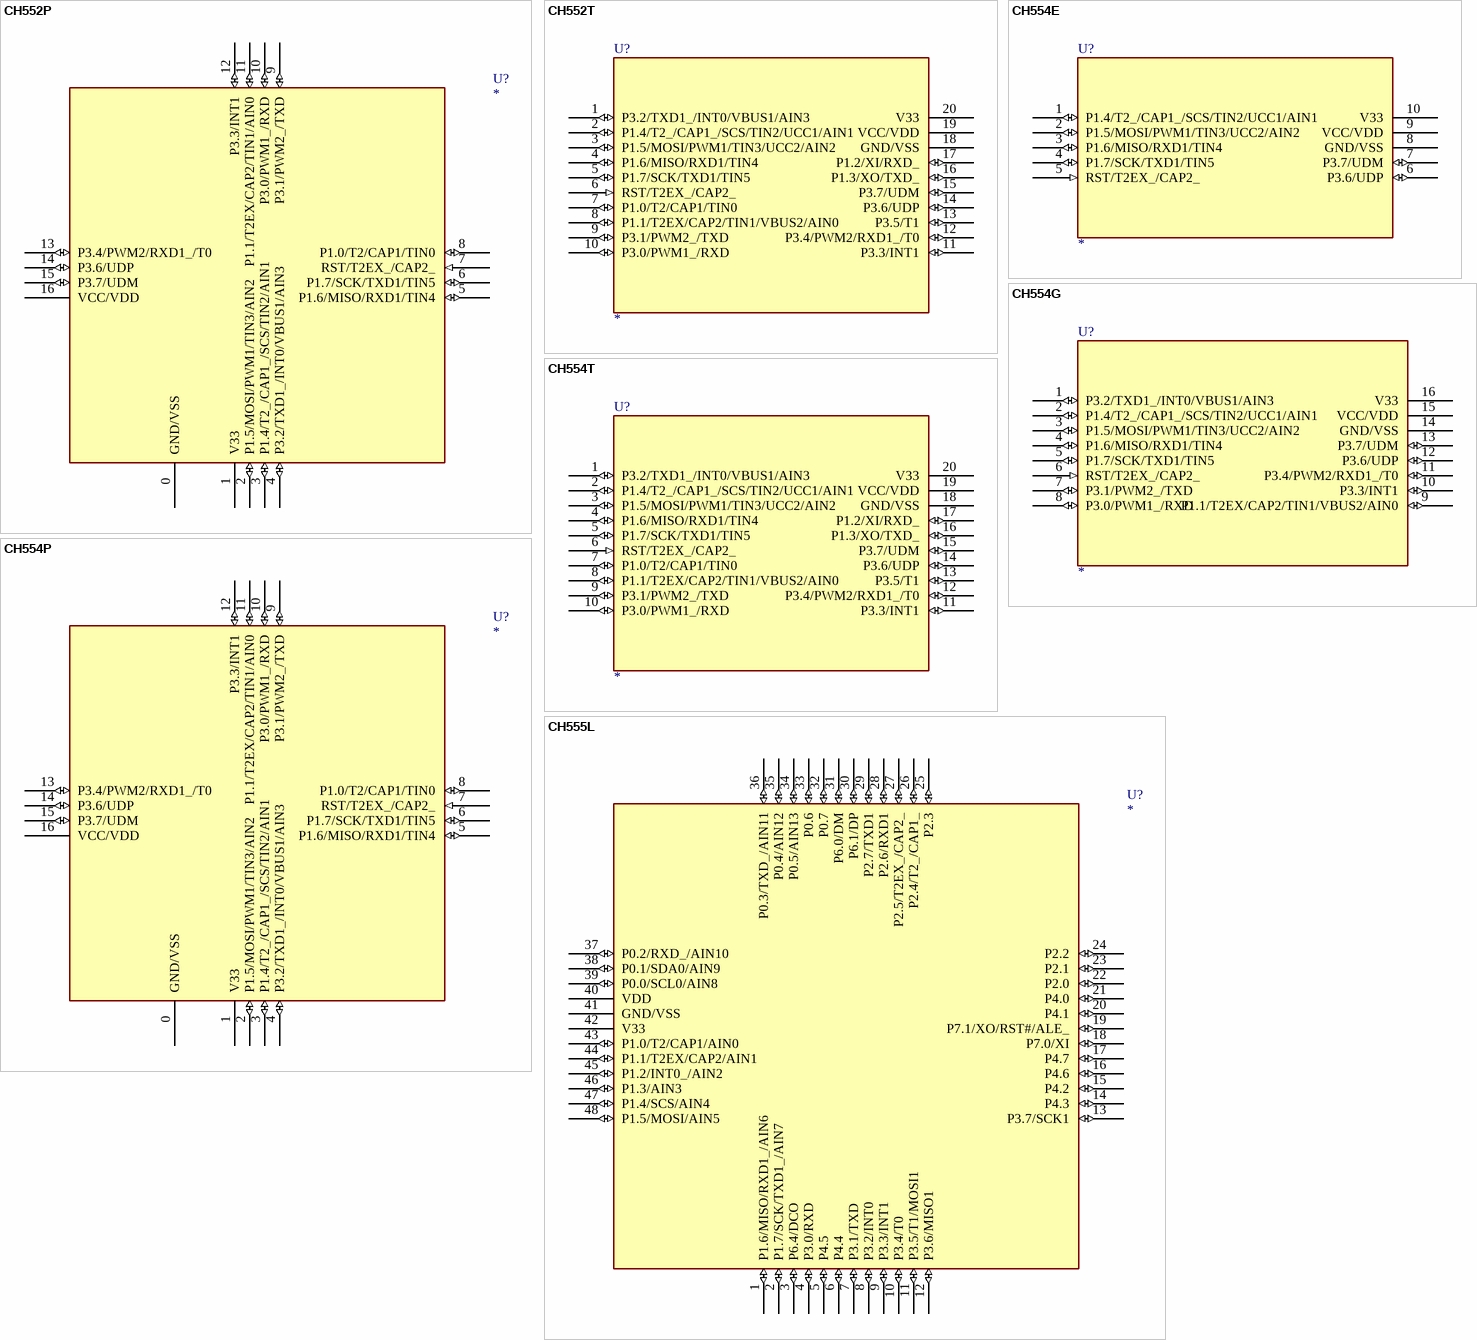
[diagram p25: symbols CH552P to CH555L]

## CH552P
designator U?
8bit MCS51 MCU with ADC & SPI & USB device & dual UART
footprint QFN16_3X3
pins: 0 GND/VSS (power), 1 V33 (power), 2 P1.5/MOSI/PWM1/TIN3/AIN2 (io), 3 P1.4/T2_/CAP1_/SCS/TIN2/AIN1 (io), 4 P3.2/TXD1_/INT0/VBUS1/AIN3 (io), 5 P1.6/MISO/RXD1/TIN4 (io), 6 P1.7/SCK/TXD1/TIN5 (io), 7 RST/T2EX_/CAP2_ (in), 8 P1.0/T2/CAP1/TIN0 (io), 9 P3.1/PWM2_/TXD (io), 10 P3.0/PWM1_/RXD (io), 11 P1.1/T2EX/CAP2/TIN1/AIN0 (io), 12 P3.3/INT1 (io), 13 P3.4/PWM2/RXD1_/T0 (io), 14 P3.6/UDP (io), 15 P3.7/UDM (io), 16 VCC/VDD (power)